# Altium integrated library Xilinx XC4000 XL.IntLib: 450 symbols (part 20 of 49)
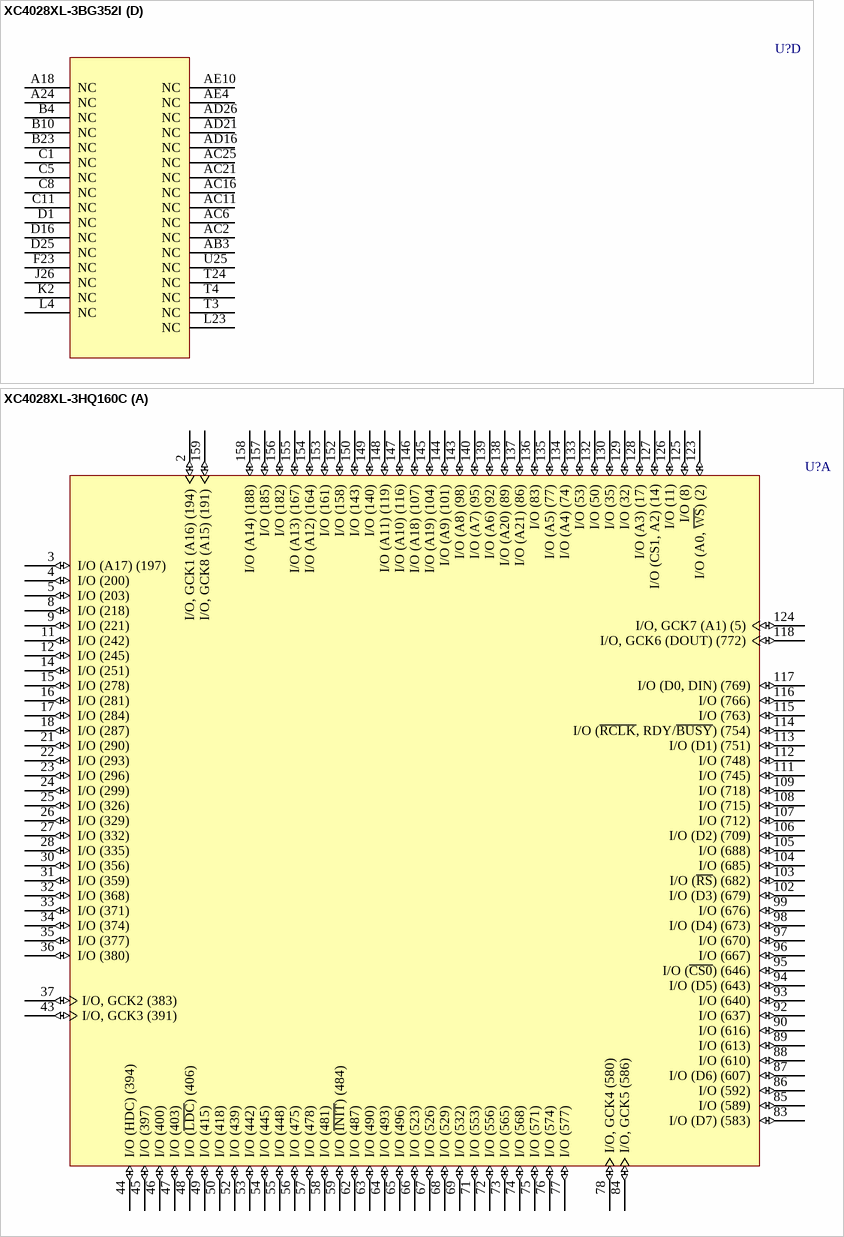
[diagram p418: symbols XC4028XL-3BG352I to XC4028XL-3HQ160C]

## XC4028XL-3BG352I
designator U?
XC4000XL FPGA, 352-Ball BGA, Industrial Grade; PackageDocument: ver1.1, Apr-2001; Published: 28-Feb-2003; DatasheetDocument: (v1.6) May-99; PackageReference: BG352; Publisher: Altium Limited; Code_JEDEC: MO-192-BAR-2
footprint BG352 (352-Ball Metal Ball Grid Array (BG352))
part A pins: A3 I/O (11) (io), A4 I/O (23) (io), A6 I/O (32) (io), A7 I/O (41) (io), A9 I/O (62) (io), A11 I/O (71) (io), A12 I/O (83) (io), A13 I/O (A6) (92) (io), A15 I/O (A19) (104) (io), A16 I/O (A10) (116) (io), A20 I/O (140) (io), A21 I/O (152) (io), A23 I/O (173) (io), AA23 I/O (374) (io), AA24 I/O (365) (io), AA25 I/O (359) (io), AA26 I/O (350) (io), AB24 I/O (377) (io), AB25 I/O (362) (io), AC24 I/O, GCK2 (383) (io), AC26 I/O (371) (io), AD25 I/O (380) (io), AE24 I/O, GCK3 (391) (io), B3 I/O (A0, ~{WS}) (2) (io), B5 I/O (20) (io), B6 I/O (29) (io), B7 I/O (38) (io), B8 I/O (50) (io), B9 I/O (59) (io), B11 I/O (68) (io), B12 I/O (80) (io), B13 I/O (A20) (89) (io), B14 I/O (A7) (95) (io), B15 I/O (A18) (107) (io), B16 I/O (A11) (119) (io), B17 I/O (125) (io), B18 I/O (131) (io), B19 I/O (143) (io), B20 I/O (155) (io), B21 I/O (161) (io), B22 I/O (A12) (164) (io), B24 I/O (182) (io), C6 I/O (A3) (17) (io), C7 I/O (26) (io), C9 I/O (47) (io), C10 I/O (56) (io), C12 I/O (A5) (77) (io), C13 I/O (A21) (86) (io), C14 I/O (A9) (101) (io), C15 I/O (110) (io), C16 I/O (122) (io), C17 I/O (128) (io), C18 I/O (134) (io), C19 I/O (146) (io), C20 I/O (158) (io), C21 I/O (A13) (167) (io), C22 I/O (179) (io), C23 I/O (185) (io), C24 I/O, GCK8 (A15) (191) (io), C25 I/O (A17) (197) (io), D5 I/O (8) (io), D6 I/O (CS1, A2) (14) (io), D8 I/O (35) (io), D9 I/O (44) (io), D10 I/O (53) (io), D11 I/O (65) (io), D12 I/O (A4) (74) (io), D14 I/O (A8) (98) (io), D15 I/O (113) (io), D17 I/O (137) (io), D18 I/O (149) (io), D20 I/O (170) (io), D21 I/O (176) (io), D22 I/O (A14) (188) (io), D23 I/O, GCK1 (A16) (194) (io), D24 I/O (200) (io), D26 I/O (218) (io), E23 I/O (203) (io), E25 I/O (215) (io), F24 I/O (212) (io), F25 I/O (224) (io), F26 I/O (227) (io), G24 I/O (221) (io), G25 I/O (236) (io), G26 I/O (239) (io), H23 I/O (230) (io), H24 I/O (233) (io), J23 I/O (242) (io), J24 I/O (245) (io), J25 I/O (257) (io), K23 I/O (251) (io), K24 I/O (254) (io), K25 I/O (263) (io), L24 I/O (260) (io), L25 I/O (266) (io), L26 I/O (269) (io), M23 I/O (272) (io), M24 I/O (275) (io), M25 I/O (278) (io), M26 I/O (281) (io), N24 I/O (284) (io), N25 I/O (287) (io), N26 I/O (290) (io), P23 I/O (296) (io), P24 I/O (299) (io), P25 I/O (293) (io), R23 I/O (311) (io), R24 I/O (308) (io), R25 I/O (305) (io), R26 I/O (302) (io), T23 I/O (320) (io), T25 I/O (317) (io), T26 I/O (314) (io), U23 I/O (335) (io), U24 I/O (326) (io), V23 I/O (347) (io), V24 I/O (332) (io), V25 I/O (329) (io), V26 I/O (323) (io), W24 I/O (344) (io), W25 I/O (341) (io), Y23 I/O (368) (io), Y24 I/O (356) (io), Y25 I/O (353) (io), Y26 I/O (338) (io)
part B pins: AA1 I/O (613) (io), AA2 I/O (610) (io), AA3 I/O (598) (io), AA4 I/O (595) (io), AB2 I/O (601) (io), AB4 I/O (589) (io), AC1 I/O (604) (io), AC3 I/O, GCK5 (586) (io), AC5 I/O, GCK4 (580) (io), AC7 I/O (562) (io), AC9 I/O (541) (io), AC10 I/O (529) (io), AC12 I/O (505) (io), AC13 I/O (490) (io), AC15 I/O (466) (io), AC17 I/O (445) (io), AC18 I/O (436) (io), AC19 I/O (424) (io), AC22 I/O (397) (io), AD1 I/O (592) (io), AD2 I/O (D7) (583) (io), AD4 I/O (577) (io), AD5 I/O (571) (io), AD6 I/O (559) (io), AD7 I/O (550) (io), AD8 I/O (538) (io), AD9 I/O (526) (io), AD10 I/O (520) (io), AD11 I/O (514) (io), AD12 I/O (502) (io), AD13 I/O (493) (io), AD14 I/O (478) (io), AD15 I/O (469) (io), AD17 I/O (448) (io), AD18 I/O (439) (io), AD19 I/O (427) (io), AD20 I/O (415) (io), AD22 I/O (403) (io), AD23 I/O (HDC) (394) (io), AE3 I/O (574) (io), AE5 I/O (556) (io), AE6 I/O (553) (io), AE7 I/O (547) (io), AE8 I/O (535) (io), AE9 I/O (523) (io), AE11 I/O (511) (io), AE12 I/O (499) (io), AE13 I/O (487) (io), AE14 I/O (481) (io), AE15 I/O (472) (io), AE16 I/O (460) (io), AE17 I/O (457) (io), AE18 I/O (451) (io), AE19 I/O (442) (io), AE20 I/O (430) (io), AE21 I/O (418) (io), AE22 I/O (409) (io), AE23 I/O (~{LDC}) (406) (io), AF3 I/O (568) (io), AF4 I/O (565) (io), AF6 I/O (544) (io), AF7 I/O (532) (io), AF9 I/O (517) (io), AF11 I/O (508) (io), AF12 I/O (496) (io), AF14 I/O (~{INIT}) (484) (io), AF15 I/O (475) (io), AF16 I/O (463) (io), AF18 I/O (454) (io), AF20 I/O (433) (io), AF21 I/O (421) (io), AF23 I/O (412) (io), AF24 I/O (400) (io), C2 I/O (766) (io), C4 I/O, GCK7 (A1) (5) (io), D2 I/O (757) (io), D3 I/O (D0, DIN) (769) (io), E2 I/O (748) (io), E3 I/O (763) (io), E4 I/O, GCK6 (DOUT) (772) (io), F1 I/O (736) (io), F2 I/O (745) (io), F3 I/O (D1) (751) (io), F4 I/O (760) (io), G1 I/O (724) (io), G2 I/O (739) (io), G3 I/O (742) (io), G4 I/O (~{RCLK}, RDY/~{BUSY}) (754) (io), H2 I/O (727) (io), H3 I/O (730) (io), J1 I/O (D2) (709) (io), J2 I/O (715) (io), J3 I/O (718) (io), J4 I/O (733) (io), K3 I/O (712) (io), K4 I/O (721) (io), L1 I/O (700) (io), L2 I/O (703) (io), L3 I/O (706) (io), M1 I/O (688) (io), M2 I/O (691) (io), M3 I/O (694) (io), M4 I/O (697) (io), N2 I/O (D3) (679) (io), N3 I/O (685) (io), N4 I/O (~{RS}) (682) (io), P1 I/O (676) (io), P2 I/O (D4) (673) (io), P3 I/O (670) (io), R1 I/O (667) (io), R2 I/O (664) (io), R3 I/O (661) (io), R4 I/O (658) (io), T1 I/O (655) (io), T2 I/O (652) (io), U2 I/O (649) (io), U3 I/O (640) (io), U4 I/O (637) (io), V1 I/O (~{CS0}) (646) (io), V2 I/O (D5) (643) (io), V3 I/O (631) (io), V4 I/O (628) (io), W2 I/O (634) (io), W3 I/O (619) (io), W4 I/O (616) (io), Y1 I/O (625) (io), Y2 I/O (622) (io), Y3 I/O (D6) (607) (io)
part C pins: A1 GND (power), A2 GND (power), A5 GND (power), A8 GND (power), A10 VCC (power), A14 GND (power), A17 VCC (power), A19 GND (power), A22 GND (power), A25 GND (power), A26 GND (power), AB1 GND (power), AB23 O (M1) (386) (io), AB26 GND (power), AC4 ~{PROGRAM} (in), AC8 VCC (power), AC14 VCC (power), AC20 VCC (power), AC23 I (M2) (390) (in), AD3 DONE (io), AD24 I (M0) (389) (in), AE1 GND (power), AE2 VCC (power), AE25 VCC (power), AE26 GND (power), AF1 GND (power), AF2 GND (power), AF5 GND (power), AF8 GND (power), AF10 VCC (power), AF13 GND (power), AF17 VCC (power), AF19 GND (power), AF22 GND (power), AF25 GND (power), AF26 GND (power), B1 GND (power), B2 VCC (power), B25 VCC (power), B26 GND (power), C3 CCLK (io), C26 I/O, TDI (206) (io), D4 O, TDO (0) (hiz), D7 VCC (power), D13 VCC (power), D19 VCC (power), E1 GND (power), E24 I/O, TCK (209) (io), E26 GND (power), G23 VCC (power), H1 GND (power), H4 VCC (power), H25 I/O, TMS (248) (io), H26 GND (power), K1 VCC (power), K26 VCC (power), N1 GND (power), N23 VCC (power), P4 VCC (power), P26 GND (power), U1 VCC (power), U26 VCC (power), W1 GND (power), W23 VCC (power), W26 GND (power), Y4 VCC (power)
part D pins: A18 NC, A24 NC, AB3 NC, AC2 NC, AC6 NC, AC11 NC, AC16 NC, AC21 NC, AC25 NC, AD16 NC, AD21 NC, AD26 NC, AE4 NC, AE10 NC, B4 NC, B10 NC, B23 NC, C1 NC, C5 NC, C8 NC, C11 NC, D1 NC, D16 NC, D25 NC, F23 NC, J26 NC, K2 NC, L4 NC, L23 NC, T3 NC, T4 NC, T24 NC, U25 NC

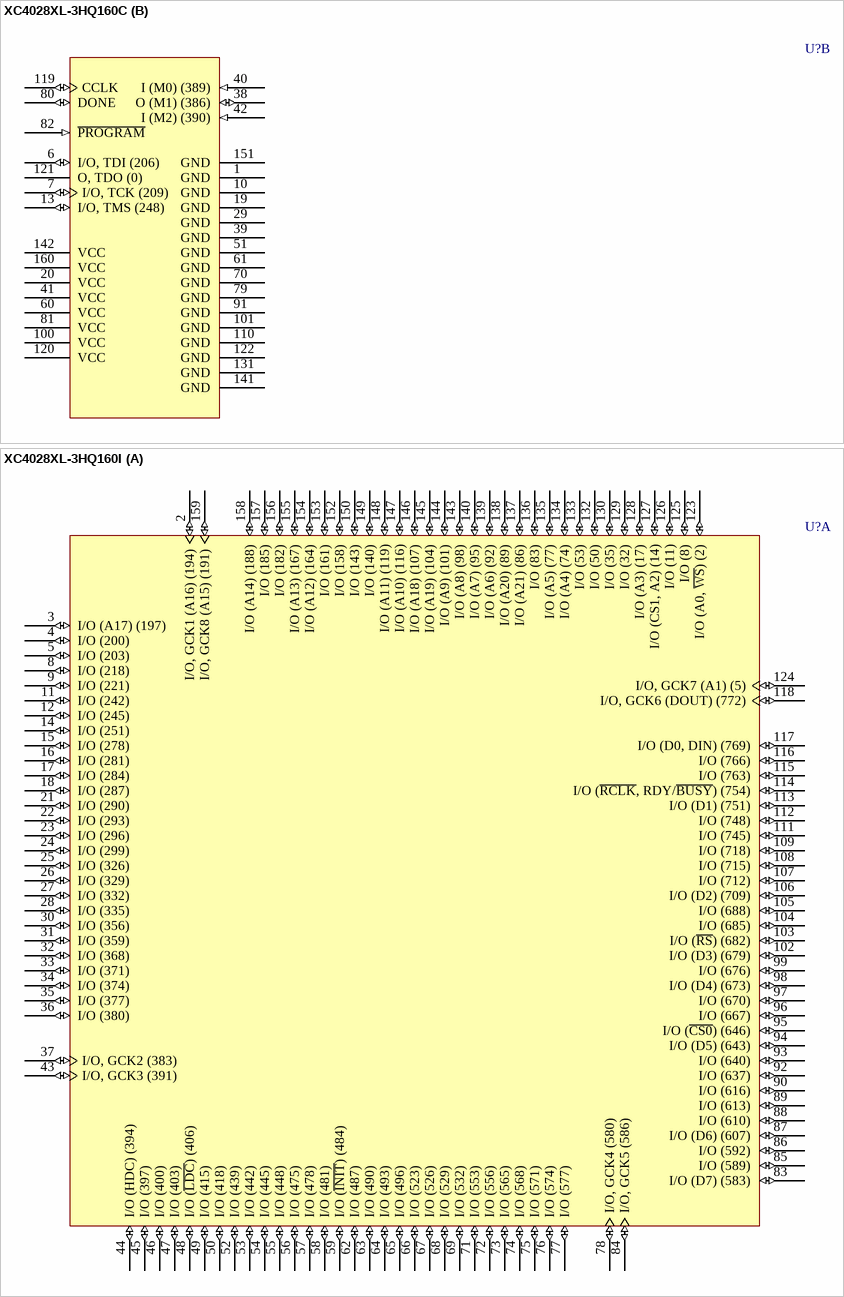
[diagram p215: symbols XC4028XL-3HQ160C to XC4028XL-3HQ160I]

## XC4028XL-3HQ160C
designator U?
XC4000XL FPGA, 160-Pin HQFP, Commercial Grade; PackageDocument: ver1.1, Oct-2002; Published: 28-Feb-2003; DatasheetDocument: (v1.6) May-99; PackageReference: HQ160; Publisher: Altium Limited; Code_JEDEC: MS-022-DD1
footprint HQ160 (160-Pin Heat Sink Quad Flat Pack (HQ160))
part A pins: 2 I/O, GCK1 (A16) (194) (io), 3 I/O (A17) (197) (io), 4 I/O (200) (io), 5 I/O (203) (io), 8 I/O (218) (io), 9 I/O (221) (io), 11 I/O (242) (io), 12 I/O (245) (io), 14 I/O (251) (io), 15 I/O (278) (io), 16 I/O (281) (io), 17 I/O (284) (io), 18 I/O (287) (io), 21 I/O (290) (io), 22 I/O (293) (io), 23 I/O (296) (io), 24 I/O (299) (io), 25 I/O (326) (io), 26 I/O (329) (io), 27 I/O (332) (io), 28 I/O (335) (io), 30 I/O (356) (io), 31 I/O (359) (io), 32 I/O (368) (io), 33 I/O (371) (io), 34 I/O (374) (io), 35 I/O (377) (io), 36 I/O (380) (io), 37 I/O, GCK2 (383) (io), 43 I/O, GCK3 (391) (io), 44 I/O (HDC) (394) (io), 45 I/O (397) (io), 46 I/O (400) (io), 47 I/O (403) (io), 48 I/O (~{LDC}) (406) (io), 49 I/O (415) (io), 50 I/O (418) (io), 52 I/O (439) (io), 53 I/O (442) (io), 54 I/O (445) (io), 55 I/O (448) (io), 56 I/O (475) (io), 57 I/O (478) (io), 58 I/O (481) (io), 59 I/O (~{INIT}) (484) (io), 62 I/O (487) (io), 63 I/O (490) (io), 64 I/O (493) (io), 65 I/O (496) (io), 66 I/O (523) (io), 67 I/O (526) (io), 68 I/O (529) (io), 69 I/O (532) (io), 71 I/O (553) (io), 72 I/O (556) (io), 73 I/O (565) (io), 74 I/O (568) (io), 75 I/O (571) (io), 76 I/O (574) (io), 77 I/O (577) (io), 78 I/O, GCK4 (580) (io), 83 I/O (D7) (583) (io), 84 I/O, GCK5 (586) (io), 85 I/O (589) (io), 86 I/O (592) (io), 87 I/O (D6) (607) (io), 88 I/O (610) (io), 89 I/O (613) (io), 90 I/O (616) (io), 92 I/O (637) (io), 93 I/O (640) (io), 94 I/O (D5) (643) (io), 95 I/O (~{CS0}) (646) (io), 96 I/O (667) (io), 97 I/O (670) (io), 98 I/O (D4) (673) (io), 99 I/O (676) (io), 102 I/O (D3) (679) (io), 103 I/O (~{RS}) (682) (io), 104 I/O (685) (io), 105 I/O (688) (io), 106 I/O (D2) (709) (io), 107 I/O (712) (io), 108 I/O (715) (io), 109 I/O (718) (io), 111 I/O (745) (io), 112 I/O (748) (io), 113 I/O (D1) (751) (io), 114 I/O (~{RCLK}, RDY/~{BUSY}) (754) (io), 115 I/O (763) (io), 116 I/O (766) (io), 117 I/O (D0, DIN) (769) (io), 118 I/O, GCK6 (DOUT) (772) (io), 123 I/O (A0, ~{WS}) (2) (io), 124 I/O, GCK7 (A1) (5) (io), 125 I/O (8) (io), 126 I/O (11) (io), 127 I/O (CS1, A2) (14) (io), 128 I/O (A3) (17) (io), 129 I/O (32) (io), 130 I/O (35) (io), 132 I/O (50) (io), 133 I/O (53) (io), 134 I/O (A4) (74) (io), 135 I/O (A5) (77) (io), 136 I/O (83) (io), 137 I/O (A21) (86) (io), 138 I/O (A20) (89) (io), 139 I/O (A6) (92) (io), 140 I/O (A7) (95) (io), 143 I/O (A8) (98) (io), 144 I/O (A9) (101) (io), 145 I/O (A19) (104) (io), 146 I/O (A18) (107) (io), 147 I/O (A10) (116) (io), 148 I/O (A11) (119) (io), 149 I/O (140) (io), 150 I/O (143) (io), 152 I/O (158) (io), 153 I/O (161) (io), 154 I/O (A12) (164) (io), 155 I/O (A13) (167) (io), 156 I/O (182) (io), 157 I/O (185) (io), 158 I/O (A14) (188) (io), 159 I/O, GCK8 (A15) (191) (io)
part B pins: 1 GND (power), 6 I/O, TDI (206) (io), 7 I/O, TCK (209) (io), 10 GND (power), 13 I/O, TMS (248) (io), 19 GND (power), 20 VCC (power), 29 GND (power), 38 O (M1) (386) (io), 39 GND (power), 40 I (M0) (389) (in), 41 VCC (power), 42 I (M2) (390) (in), 51 GND (power), 60 VCC (power), 61 GND (power), 70 GND (power), 79 GND (power), 80 DONE (io), 81 VCC (power), 82 ~{PROGRAM} (in), 91 GND (power), 100 VCC (power), 101 GND (power), 110 GND (power), 119 CCLK (io), 120 VCC (power), 121 O, TDO (0) (hiz), 122 GND (power), 131 GND (power), 141 GND (power), 142 VCC (power), 151 GND (power), 160 VCC (power)

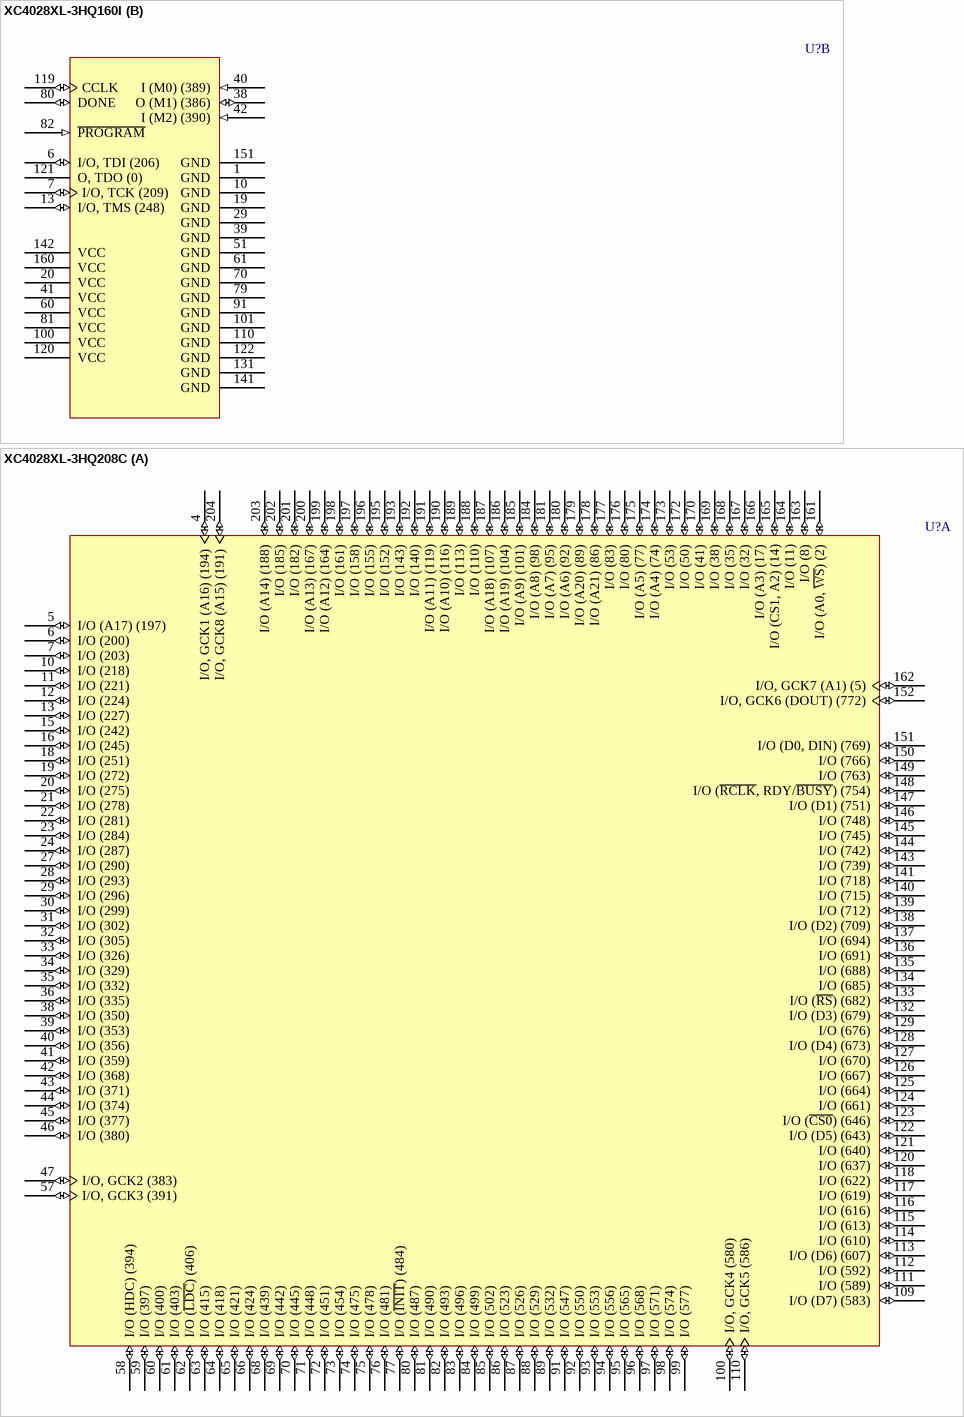
[diagram p216: symbols XC4028XL-3HQ160I to XC4028XL-3HQ208C]

## XC4028XL-3HQ160I
designator U?
XC4000XL FPGA, 160-Pin HQFP, Industrial Grade; PackageDocument: ver1.1, Oct-2002; Published: 28-Feb-2003; DatasheetDocument: (v1.6) May-99; PackageReference: HQ160; Publisher: Altium Limited; Code_JEDEC: MS-022-DD1
footprint HQ160 (160-Pin Heat Sink Quad Flat Pack (HQ160))
part A pins: 2 I/O, GCK1 (A16) (194) (io), 3 I/O (A17) (197) (io), 4 I/O (200) (io), 5 I/O (203) (io), 8 I/O (218) (io), 9 I/O (221) (io), 11 I/O (242) (io), 12 I/O (245) (io), 14 I/O (251) (io), 15 I/O (278) (io), 16 I/O (281) (io), 17 I/O (284) (io), 18 I/O (287) (io), 21 I/O (290) (io), 22 I/O (293) (io), 23 I/O (296) (io), 24 I/O (299) (io), 25 I/O (326) (io), 26 I/O (329) (io), 27 I/O (332) (io), 28 I/O (335) (io), 30 I/O (356) (io), 31 I/O (359) (io), 32 I/O (368) (io), 33 I/O (371) (io), 34 I/O (374) (io), 35 I/O (377) (io), 36 I/O (380) (io), 37 I/O, GCK2 (383) (io), 43 I/O, GCK3 (391) (io), 44 I/O (HDC) (394) (io), 45 I/O (397) (io), 46 I/O (400) (io), 47 I/O (403) (io), 48 I/O (~{LDC}) (406) (io), 49 I/O (415) (io), 50 I/O (418) (io), 52 I/O (439) (io), 53 I/O (442) (io), 54 I/O (445) (io), 55 I/O (448) (io), 56 I/O (475) (io), 57 I/O (478) (io), 58 I/O (481) (io), 59 I/O (~{INIT}) (484) (io), 62 I/O (487) (io), 63 I/O (490) (io), 64 I/O (493) (io), 65 I/O (496) (io), 66 I/O (523) (io), 67 I/O (526) (io), 68 I/O (529) (io), 69 I/O (532) (io), 71 I/O (553) (io), 72 I/O (556) (io), 73 I/O (565) (io), 74 I/O (568) (io), 75 I/O (571) (io), 76 I/O (574) (io), 77 I/O (577) (io), 78 I/O, GCK4 (580) (io), 83 I/O (D7) (583) (io), 84 I/O, GCK5 (586) (io), 85 I/O (589) (io), 86 I/O (592) (io), 87 I/O (D6) (607) (io), 88 I/O (610) (io), 89 I/O (613) (io), 90 I/O (616) (io), 92 I/O (637) (io), 93 I/O (640) (io), 94 I/O (D5) (643) (io), 95 I/O (~{CS0}) (646) (io), 96 I/O (667) (io), 97 I/O (670) (io), 98 I/O (D4) (673) (io), 99 I/O (676) (io), 102 I/O (D3) (679) (io), 103 I/O (~{RS}) (682) (io), 104 I/O (685) (io), 105 I/O (688) (io), 106 I/O (D2) (709) (io), 107 I/O (712) (io), 108 I/O (715) (io), 109 I/O (718) (io), 111 I/O (745) (io), 112 I/O (748) (io), 113 I/O (D1) (751) (io), 114 I/O (~{RCLK}, RDY/~{BUSY}) (754) (io), 115 I/O (763) (io), 116 I/O (766) (io), 117 I/O (D0, DIN) (769) (io), 118 I/O, GCK6 (DOUT) (772) (io), 123 I/O (A0, ~{WS}) (2) (io), 124 I/O, GCK7 (A1) (5) (io), 125 I/O (8) (io), 126 I/O (11) (io), 127 I/O (CS1, A2) (14) (io), 128 I/O (A3) (17) (io), 129 I/O (32) (io), 130 I/O (35) (io), 132 I/O (50) (io), 133 I/O (53) (io), 134 I/O (A4) (74) (io), 135 I/O (A5) (77) (io), 136 I/O (83) (io), 137 I/O (A21) (86) (io), 138 I/O (A20) (89) (io), 139 I/O (A6) (92) (io), 140 I/O (A7) (95) (io), 143 I/O (A8) (98) (io), 144 I/O (A9) (101) (io), 145 I/O (A19) (104) (io), 146 I/O (A18) (107) (io), 147 I/O (A10) (116) (io), 148 I/O (A11) (119) (io), 149 I/O (140) (io), 150 I/O (143) (io), 152 I/O (158) (io), 153 I/O (161) (io), 154 I/O (A12) (164) (io), 155 I/O (A13) (167) (io), 156 I/O (182) (io), 157 I/O (185) (io), 158 I/O (A14) (188) (io), 159 I/O, GCK8 (A15) (191) (io)
part B pins: 1 GND (power), 6 I/O, TDI (206) (io), 7 I/O, TCK (209) (io), 10 GND (power), 13 I/O, TMS (248) (io), 19 GND (power), 20 VCC (power), 29 GND (power), 38 O (M1) (386) (io), 39 GND (power), 40 I (M0) (389) (in), 41 VCC (power), 42 I (M2) (390) (in), 51 GND (power), 60 VCC (power), 61 GND (power), 70 GND (power), 79 GND (power), 80 DONE (io), 81 VCC (power), 82 ~{PROGRAM} (in), 91 GND (power), 100 VCC (power), 101 GND (power), 110 GND (power), 119 CCLK (io), 120 VCC (power), 121 O, TDO (0) (hiz), 122 GND (power), 131 GND (power), 141 GND (power), 142 VCC (power), 151 GND (power), 160 VCC (power)

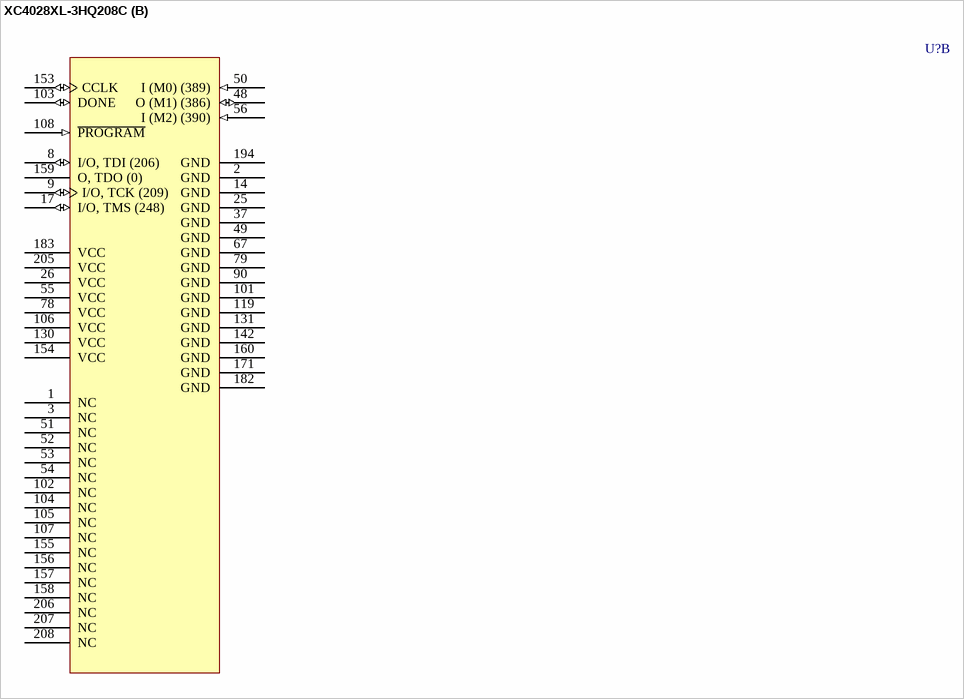
[diagram p217: symbol XC4028XL-3HQ208C]

## XC4028XL-3HQ208C
designator U?
XC4000XL FPGA, 208-Pin HQFP, Commercial Grade; PackageDocument: ver1.1, Oct-2002; Published: 28-Feb-2003; LatestRevisionDate: 17-Sep-2003; LatestRevisionNote: PCB Footprint dimensions updated; DatasheetDocument: (v1.6) May-99; PackageReference: HQ208; Publisher: Altium Limited; Code_JEDEC: MS-029-FA-1
footprint HQ208 (208-Pin Heat Sink Quad Flat Pack (HQ208))
part A pins: 4 I/O, GCK1 (A16) (194) (io), 5 I/O (A17) (197) (io), 6 I/O (200) (io), 7 I/O (203) (io), 10 I/O (218) (io), 11 I/O (221) (io), 12 I/O (224) (io), 13 I/O (227) (io), 15 I/O (242) (io), 16 I/O (245) (io), 18 I/O (251) (io), 19 I/O (272) (io), 20 I/O (275) (io), 21 I/O (278) (io), 22 I/O (281) (io), 23 I/O (284) (io), 24 I/O (287) (io), 27 I/O (290) (io), 28 I/O (293) (io), 29 I/O (296) (io), 30 I/O (299) (io), 31 I/O (302) (io), 32 I/O (305) (io), 33 I/O (326) (io), 34 I/O (329) (io), 35 I/O (332) (io), 36 I/O (335) (io), 38 I/O (350) (io), 39 I/O (353) (io), 40 I/O (356) (io), 41 I/O (359) (io), 42 I/O (368) (io), 43 I/O (371) (io), 44 I/O (374) (io), 45 I/O (377) (io), 46 I/O (380) (io), 47 I/O, GCK2 (383) (io), 57 I/O, GCK3 (391) (io), 58 I/O (HDC) (394) (io), 59 I/O (397) (io), 60 I/O (400) (io), 61 I/O (403) (io), 62 I/O (~{LDC}) (406) (io), 63 I/O (415) (io), 64 I/O (418) (io), 65 I/O (421) (io), 66 I/O (424) (io), 68 I/O (439) (io), 69 I/O (442) (io), 70 I/O (445) (io), 71 I/O (448) (io), 72 I/O (451) (io), 73 I/O (454) (io), 74 I/O (475) (io), 75 I/O (478) (io), 76 I/O (481) (io), 77 I/O (~{INIT}) (484) (io), 80 I/O (487) (io), 81 I/O (490) (io), 82 I/O (493) (io), 83 I/O (496) (io), 84 I/O (499) (io), 85 I/O (502) (io), 86 I/O (523) (io), 87 I/O (526) (io), 88 I/O (529) (io), 89 I/O (532) (io), 91 I/O (547) (io), 92 I/O (550) (io), 93 I/O (553) (io), 94 I/O (556) (io), 95 I/O (565) (io), 96 I/O (568) (io), 97 I/O (571) (io), 98 I/O (574) (io), 99 I/O (577) (io), 100 I/O, GCK4 (580) (io), 109 I/O (D7) (583) (io), 110 I/O, GCK5 (586) (io), 111 I/O (589) (io), 112 I/O (592) (io), 113 I/O (D6) (607) (io), 114 I/O (610) (io), 115 I/O (613) (io), 116 I/O (616) (io), 117 I/O (619) (io), 118 I/O (622) (io), 120 I/O (637) (io), 121 I/O (640) (io), 122 I/O (D5) (643) (io), 123 I/O (~{CS0}) (646) (io), 124 I/O (661) (io), 125 I/O (664) (io), 126 I/O (667) (io), 127 I/O (670) (io), 128 I/O (D4) (673) (io), 129 I/O (676) (io), 132 I/O (D3) (679) (io), 133 I/O (~{RS}) (682) (io), 134 I/O (685) (io), 135 I/O (688) (io), 136 I/O (691) (io), 137 I/O (694) (io), 138 I/O (D2) (709) (io), 139 I/O (712) (io), 140 I/O (715) (io), 141 I/O (718) (io), 143 I/O (739) (io), 144 I/O (742) (io), 145 I/O (745) (io), 146 I/O (748) (io), 147 I/O (D1) (751) (io), 148 I/O (~{RCLK}, RDY/~{BUSY}) (754) (io), 149 I/O (763) (io), 150 I/O (766) (io), 151 I/O (D0, DIN) (769) (io), 152 I/O, GCK6 (DOUT) (772) (io), 161 I/O (A0, ~{WS}) (2) (io), 162 I/O, GCK7 (A1) (5) (io), 163 I/O (8) (io), 164 I/O (11) (io), 165 I/O (CS1, A2) (14) (io), 166 I/O (A3) (17) (io), 167 I/O (32) (io), 168 I/O (35) (io), 169 I/O (38) (io), 170 I/O (41) (io), 172 I/O (50) (io), 173 I/O (53) (io), 174 I/O (A4) (74) (io), 175 I/O (A5) (77) (io), 176 I/O (80) (io), 177 I/O (83) (io), 178 I/O (A21) (86) (io), 179 I/O (A20) (89) (io), 180 I/O (A6) (92) (io), 181 I/O (A7) (95) (io), 184 I/O (A8) (98) (io), 185 I/O (A9) (101) (io), 186 I/O (A19) (104) (io), 187 I/O (A18) (107) (io), 188 I/O (110) (io), 189 I/O (113) (io), 190 I/O (A10) (116) (io), 191 I/O (A11) (119) (io), 192 I/O (140) (io), 193 I/O (143) (io), 195 I/O (152) (io), 196 I/O (155) (io), 197 I/O (158) (io), 198 I/O (161) (io), 199 I/O (A12) (164) (io), 200 I/O (A13) (167) (io), 201 I/O (182) (io), 202 I/O (185) (io), 203 I/O (A14) (188) (io), 204 I/O, GCK8 (A15) (191) (io)
part B pins: 1 NC, 2 GND (power), 3 NC, 8 I/O, TDI (206) (io), 9 I/O, TCK (209) (io), 14 GND (power), 17 I/O, TMS (248) (io), 25 GND (power), 26 VCC (power), 37 GND (power), 48 O (M1) (386) (io), 49 GND (power), 50 I (M0) (389) (in), 51 NC, 52 NC, 53 NC, 54 NC, 55 VCC (power), 56 I (M2) (390) (in), 67 GND (power), 78 VCC (power), 79 GND (power), 90 GND (power), 101 GND (power), 102 NC, 103 DONE (io), 104 NC, 105 NC, 106 VCC (power), 107 NC, 108 ~{PROGRAM} (in), 119 GND (power), 130 VCC (power), 131 GND (power), 142 GND (power), 153 CCLK (io), 154 VCC (power), 155 NC, 156 NC, 157 NC, 158 NC, 159 O, TDO (0) (hiz), 160 GND (power), 171 GND (power), 182 GND (power), 183 VCC (power), 194 GND (power), 205 VCC (power), 206 NC, 207 NC, 208 NC

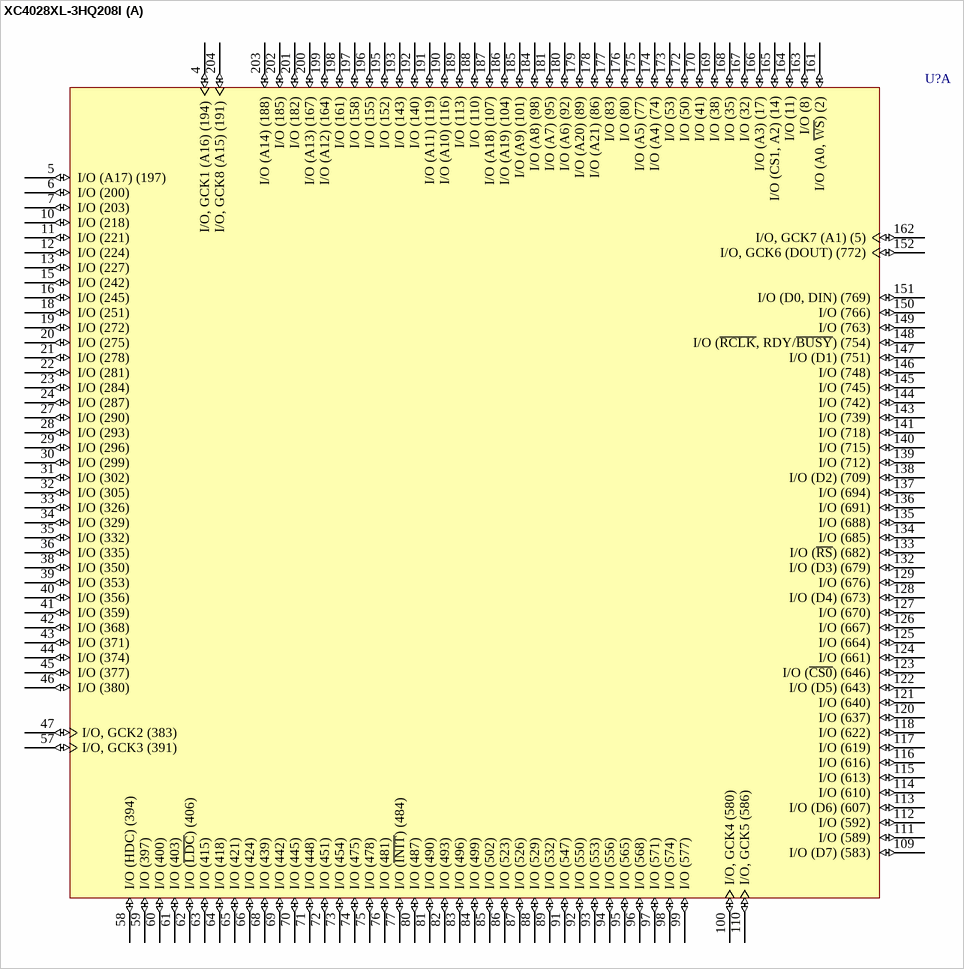
[diagram p218: symbol XC4028XL-3HQ208I]

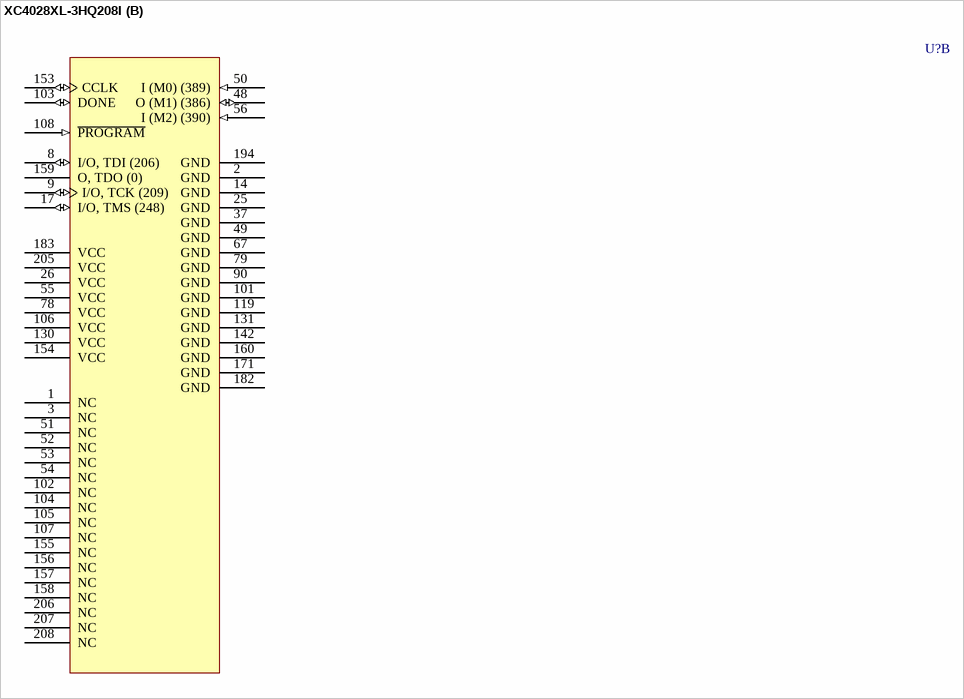
[diagram p219: symbol XC4028XL-3HQ208I]

## XC4028XL-3HQ208I
designator U?
XC4000XL FPGA, 208-Pin HQFP, Industrial Grade; PackageDocument: ver1.1, Oct-2002; Published: 28-Feb-2003; LatestRevisionDate: 17-Sep-2003; LatestRevisionNote: PCB Footprint dimensions updated; DatasheetDocument: (v1.6) May-99; PackageReference: HQ208; Publisher: Altium Limited; Code_JEDEC: MS-029-FA-1
footprint HQ208 (208-Pin Heat Sink Quad Flat Pack (HQ208))
part A pins: 4 I/O, GCK1 (A16) (194) (io), 5 I/O (A17) (197) (io), 6 I/O (200) (io), 7 I/O (203) (io), 10 I/O (218) (io), 11 I/O (221) (io), 12 I/O (224) (io), 13 I/O (227) (io), 15 I/O (242) (io), 16 I/O (245) (io), 18 I/O (251) (io), 19 I/O (272) (io), 20 I/O (275) (io), 21 I/O (278) (io), 22 I/O (281) (io), 23 I/O (284) (io), 24 I/O (287) (io), 27 I/O (290) (io), 28 I/O (293) (io), 29 I/O (296) (io), 30 I/O (299) (io), 31 I/O (302) (io), 32 I/O (305) (io), 33 I/O (326) (io), 34 I/O (329) (io), 35 I/O (332) (io), 36 I/O (335) (io), 38 I/O (350) (io), 39 I/O (353) (io), 40 I/O (356) (io), 41 I/O (359) (io), 42 I/O (368) (io), 43 I/O (371) (io), 44 I/O (374) (io), 45 I/O (377) (io), 46 I/O (380) (io), 47 I/O, GCK2 (383) (io), 57 I/O, GCK3 (391) (io), 58 I/O (HDC) (394) (io), 59 I/O (397) (io), 60 I/O (400) (io), 61 I/O (403) (io), 62 I/O (~{LDC}) (406) (io), 63 I/O (415) (io), 64 I/O (418) (io), 65 I/O (421) (io), 66 I/O (424) (io), 68 I/O (439) (io), 69 I/O (442) (io), 70 I/O (445) (io), 71 I/O (448) (io), 72 I/O (451) (io), 73 I/O (454) (io), 74 I/O (475) (io), 75 I/O (478) (io), 76 I/O (481) (io), 77 I/O (~{INIT}) (484) (io), 80 I/O (487) (io), 81 I/O (490) (io), 82 I/O (493) (io), 83 I/O (496) (io), 84 I/O (499) (io), 85 I/O (502) (io), 86 I/O (523) (io), 87 I/O (526) (io), 88 I/O (529) (io), 89 I/O (532) (io), 91 I/O (547) (io), 92 I/O (550) (io), 93 I/O (553) (io), 94 I/O (556) (io), 95 I/O (565) (io), 96 I/O (568) (io), 97 I/O (571) (io), 98 I/O (574) (io), 99 I/O (577) (io), 100 I/O, GCK4 (580) (io), 109 I/O (D7) (583) (io), 110 I/O, GCK5 (586) (io), 111 I/O (589) (io), 112 I/O (592) (io), 113 I/O (D6) (607) (io), 114 I/O (610) (io), 115 I/O (613) (io), 116 I/O (616) (io), 117 I/O (619) (io), 118 I/O (622) (io), 120 I/O (637) (io), 121 I/O (640) (io), 122 I/O (D5) (643) (io), 123 I/O (~{CS0}) (646) (io), 124 I/O (661) (io), 125 I/O (664) (io), 126 I/O (667) (io), 127 I/O (670) (io), 128 I/O (D4) (673) (io), 129 I/O (676) (io), 132 I/O (D3) (679) (io), 133 I/O (~{RS}) (682) (io), 134 I/O (685) (io), 135 I/O (688) (io), 136 I/O (691) (io), 137 I/O (694) (io), 138 I/O (D2) (709) (io), 139 I/O (712) (io), 140 I/O (715) (io), 141 I/O (718) (io), 143 I/O (739) (io), 144 I/O (742) (io), 145 I/O (745) (io), 146 I/O (748) (io), 147 I/O (D1) (751) (io), 148 I/O (~{RCLK}, RDY/~{BUSY}) (754) (io), 149 I/O (763) (io), 150 I/O (766) (io), 151 I/O (D0, DIN) (769) (io), 152 I/O, GCK6 (DOUT) (772) (io), 161 I/O (A0, ~{WS}) (2) (io), 162 I/O, GCK7 (A1) (5) (io), 163 I/O (8) (io), 164 I/O (11) (io), 165 I/O (CS1, A2) (14) (io), 166 I/O (A3) (17) (io), 167 I/O (32) (io), 168 I/O (35) (io), 169 I/O (38) (io), 170 I/O (41) (io), 172 I/O (50) (io), 173 I/O (53) (io), 174 I/O (A4) (74) (io), 175 I/O (A5) (77) (io), 176 I/O (80) (io), 177 I/O (83) (io), 178 I/O (A21) (86) (io), 179 I/O (A20) (89) (io), 180 I/O (A6) (92) (io), 181 I/O (A7) (95) (io), 184 I/O (A8) (98) (io), 185 I/O (A9) (101) (io), 186 I/O (A19) (104) (io), 187 I/O (A18) (107) (io), 188 I/O (110) (io), 189 I/O (113) (io), 190 I/O (A10) (116) (io), 191 I/O (A11) (119) (io), 192 I/O (140) (io), 193 I/O (143) (io), 195 I/O (152) (io), 196 I/O (155) (io), 197 I/O (158) (io), 198 I/O (161) (io), 199 I/O (A12) (164) (io), 200 I/O (A13) (167) (io), 201 I/O (182) (io), 202 I/O (185) (io), 203 I/O (A14) (188) (io), 204 I/O, GCK8 (A15) (191) (io)
part B pins: 1 NC, 2 GND (power), 3 NC, 8 I/O, TDI (206) (io), 9 I/O, TCK (209) (io), 14 GND (power), 17 I/O, TMS (248) (io), 25 GND (power), 26 VCC (power), 37 GND (power), 48 O (M1) (386) (io), 49 GND (power), 50 I (M0) (389) (in), 51 NC, 52 NC, 53 NC, 54 NC, 55 VCC (power), 56 I (M2) (390) (in), 67 GND (power), 78 VCC (power), 79 GND (power), 90 GND (power), 101 GND (power), 102 NC, 103 DONE (io), 104 NC, 105 NC, 106 VCC (power), 107 NC, 108 ~{PROGRAM} (in), 119 GND (power), 130 VCC (power), 131 GND (power), 142 GND (power), 153 CCLK (io), 154 VCC (power), 155 NC, 156 NC, 157 NC, 158 NC, 159 O, TDO (0) (hiz), 160 GND (power), 171 GND (power), 182 GND (power), 183 VCC (power), 194 GND (power), 205 VCC (power), 206 NC, 207 NC, 208 NC

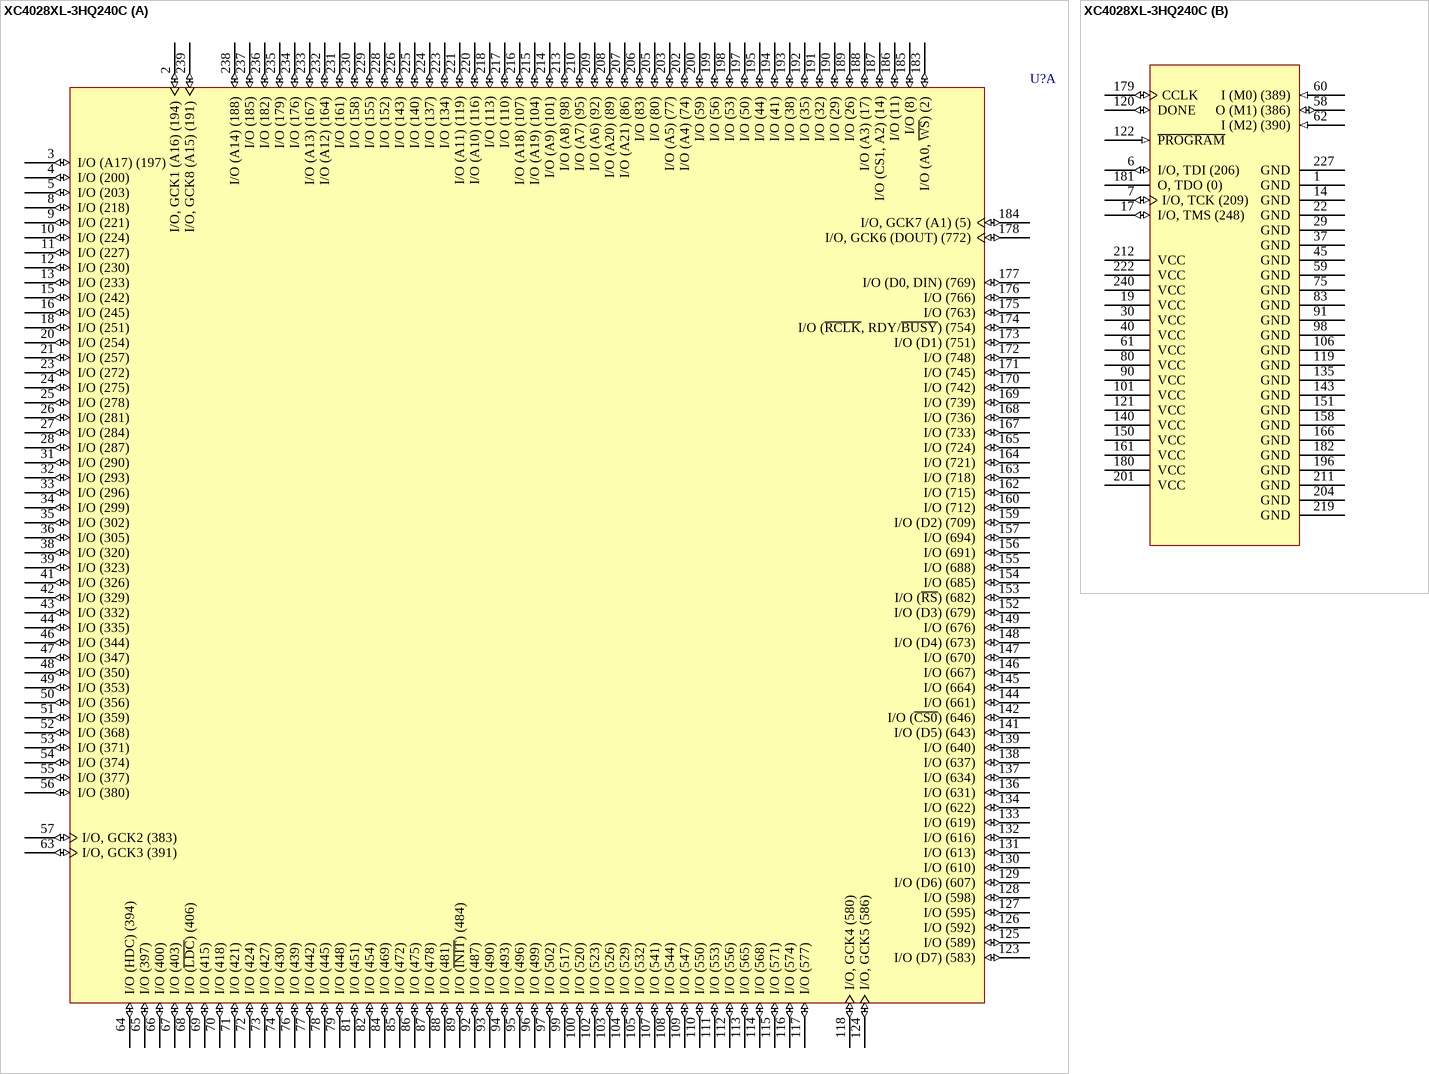
[diagram p220: symbol XC4028XL-3HQ240C]

## XC4028XL-3HQ240C
designator U?
XC4000XL FPGA, 240-Pin HQFP, Commercial Grade; PackageDocument: ver1.1, Oct-2002; Published: 28-Feb-2003; DatasheetDocument: (v1.6) May-99; PackageReference: HQ240; Publisher: Altium Limited; Code_JEDEC: MO-143-GA
footprint HQ240 (240-Pin Heat Sink Quad Flat Pack (HQ240))
part A pins: 2 I/O, GCK1 (A16) (194) (io), 3 I/O (A17) (197) (io), 4 I/O (200) (io), 5 I/O (203) (io), 8 I/O (218) (io), 9 I/O (221) (io), 10 I/O (224) (io), 11 I/O (227) (io), 12 I/O (230) (io), 13 I/O (233) (io), 15 I/O (242) (io), 16 I/O (245) (io), 18 I/O (251) (io), 20 I/O (254) (io), 21 I/O (257) (io), 23 I/O (272) (io), 24 I/O (275) (io), 25 I/O (278) (io), 26 I/O (281) (io), 27 I/O (284) (io), 28 I/O (287) (io), 31 I/O (290) (io), 32 I/O (293) (io), 33 I/O (296) (io), 34 I/O (299) (io), 35 I/O (302) (io), 36 I/O (305) (io), 38 I/O (320) (io), 39 I/O (323) (io), 41 I/O (326) (io), 42 I/O (329) (io), 43 I/O (332) (io), 44 I/O (335) (io), 46 I/O (344) (io), 47 I/O (347) (io), 48 I/O (350) (io), 49 I/O (353) (io), 50 I/O (356) (io), 51 I/O (359) (io), 52 I/O (368) (io), 53 I/O (371) (io), 54 I/O (374) (io), 55 I/O (377) (io), 56 I/O (380) (io), 57 I/O, GCK2 (383) (io), 63 I/O, GCK3 (391) (io), 64 I/O (HDC) (394) (io), 65 I/O (397) (io), 66 I/O (400) (io), 67 I/O (403) (io), 68 I/O (~{LDC}) (406) (io), 69 I/O (415) (io), 70 I/O (418) (io), 71 I/O (421) (io), 72 I/O (424) (io), 73 I/O (427) (io), 74 I/O (430) (io), 76 I/O (439) (io), 77 I/O (442) (io), 78 I/O (445) (io), 79 I/O (448) (io), 81 I/O (451) (io), 82 I/O (454) (io), 84 I/O (469) (io), 85 I/O (472) (io), 86 I/O (475) (io), 87 I/O (478) (io), 88 I/O (481) (io), 89 I/O (~{INIT}) (484) (io), 92 I/O (487) (io), 93 I/O (490) (io), 94 I/O (493) (io), 95 I/O (496) (io), 96 I/O (499) (io), 97 I/O (502) (io), 99 I/O (517) (io), 100 I/O (520) (io), 102 I/O (523) (io), 103 I/O (526) (io), 104 I/O (529) (io), 105 I/O (532) (io), 107 I/O (541) (io), 108 I/O (544) (io), 109 I/O (547) (io), 110 I/O (550) (io), 111 I/O (553) (io), 112 I/O (556) (io), 113 I/O (565) (io), 114 I/O (568) (io), 115 I/O (571) (io), 116 I/O (574) (io), 117 I/O (577) (io), 118 I/O, GCK4 (580) (io), 123 I/O (D7) (583) (io), 124 I/O, GCK5 (586) (io), 125 I/O (589) (io), 126 I/O (592) (io), 127 I/O (595) (io), 128 I/O (598) (io), 129 I/O (D6) (607) (io), 130 I/O (610) (io), 131 I/O (613) (io), 132 I/O (616) (io), 133 I/O (619) (io), 134 I/O (622) (io), 136 I/O (631) (io), 137 I/O (634) (io), 138 I/O (637) (io), 139 I/O (640) (io), 141 I/O (D5) (643) (io), 142 I/O (~{CS0}) (646) (io), 144 I/O (661) (io), 145 I/O (664) (io), 146 I/O (667) (io), 147 I/O (670) (io), 148 I/O (D4) (673) (io), 149 I/O (676) (io), 152 I/O (D3) (679) (io), 153 I/O (~{RS}) (682) (io), 154 I/O (685) (io), 155 I/O (688) (io), 156 I/O (691) (io), 157 I/O (694) (io), 159 I/O (D2) (709) (io), 160 I/O (712) (io), 162 I/O (715) (io), 163 I/O (718) (io), 164 I/O (721) (io), 165 I/O (724) (io), 167 I/O (733) (io), 168 I/O (736) (io), 169 I/O (739) (io), 170 I/O (742) (io), 171 I/O (745) (io), 172 I/O (748) (io), 173 I/O (D1) (751) (io), 174 I/O (~{RCLK}, RDY/~{BUSY}) (754) (io), 175 I/O (763) (io), 176 I/O (766) (io), 177 I/O (D0, DIN) (769) (io), 178 I/O, GCK6 (DOUT) (772) (io), 183 I/O (A0, ~{WS}) (2) (io), 184 I/O, GCK7 (A1) (5) (io), 185 I/O (8) (io), 186 I/O (11) (io), 187 I/O (CS1, A2) (14) (io), 188 I/O (A3) (17) (io), 189 I/O (26) (io), 190 I/O (29) (io), 191 I/O (32) (io), 192 I/O (35) (io), 193 I/O (38) (io), 194 I/O (41) (io), 195 I/O (44) (io), 197 I/O (50) (io), 198 I/O (53) (io), 199 I/O (56) (io), 200 I/O (59) (io), 202 I/O (A4) (74) (io), 203 I/O (A5) (77) (io), 205 I/O (80) (io), 206 I/O (83) (io), 207 I/O (A21) (86) (io), 208 I/O (A20) (89) (io), 209 I/O (A6) (92) (io), 210 I/O (A7) (95) (io), 213 I/O (A8) (98) (io), 214 I/O (A9) (101) (io), 215 I/O (A19) (104) (io), 216 I/O (A18) (107) (io), 217 I/O (110) (io), 218 I/O (113) (io), 220 I/O (A10) (116) (io), 221 I/O (A11) (119) (io), 223 I/O (134) (io), 224 I/O (137) (io), 225 I/O (140) (io), 226 I/O (143) (io), 228 I/O (152) (io), 229 I/O (155) (io), 230 I/O (158) (io), 231 I/O (161) (io), 232 I/O (A12) (164) (io), 233 I/O (A13) (167) (io), 234 I/O (176) (io), 235 I/O (179) (io), 236 I/O (182) (io), 237 I/O (185) (io), 238 I/O (A14) (188) (io), 239 I/O, GCK8 (A15) (191) (io)
part B pins: 1 GND (power), 6 I/O, TDI (206) (io), 7 I/O, TCK (209) (io), 14 GND (power), 17 I/O, TMS (248) (io), 19 VCC (power), 22 GND (power), 29 GND (power), 30 VCC (power), 37 GND (power), 40 VCC (power), 45 GND (power), 58 O (M1) (386) (io), 59 GND (power), 60 I (M0) (389) (in), 61 VCC (power), 62 I (M2) (390) (in), 75 GND (power), 80 VCC (power), 83 GND (power), 90 VCC (power), 91 GND (power), 98 GND (power), 101 VCC (power), 106 GND (power), 119 GND (power), 120 DONE (io), 121 VCC (power), 122 ~{PROGRAM} (in), 135 GND (power), 140 VCC (power), 143 GND (power), 150 VCC (power), 151 GND (power), 158 GND (power), 161 VCC (power), 166 GND (power), 179 CCLK (io), 180 VCC (power), 181 O, TDO (0) (hiz), 182 GND (power), 196 GND (power), 201 VCC (power), 204 GND (power), 211 GND (power), 212 VCC (power), 219 GND (power), 222 VCC (power), 227 GND (power), 240 VCC (power)

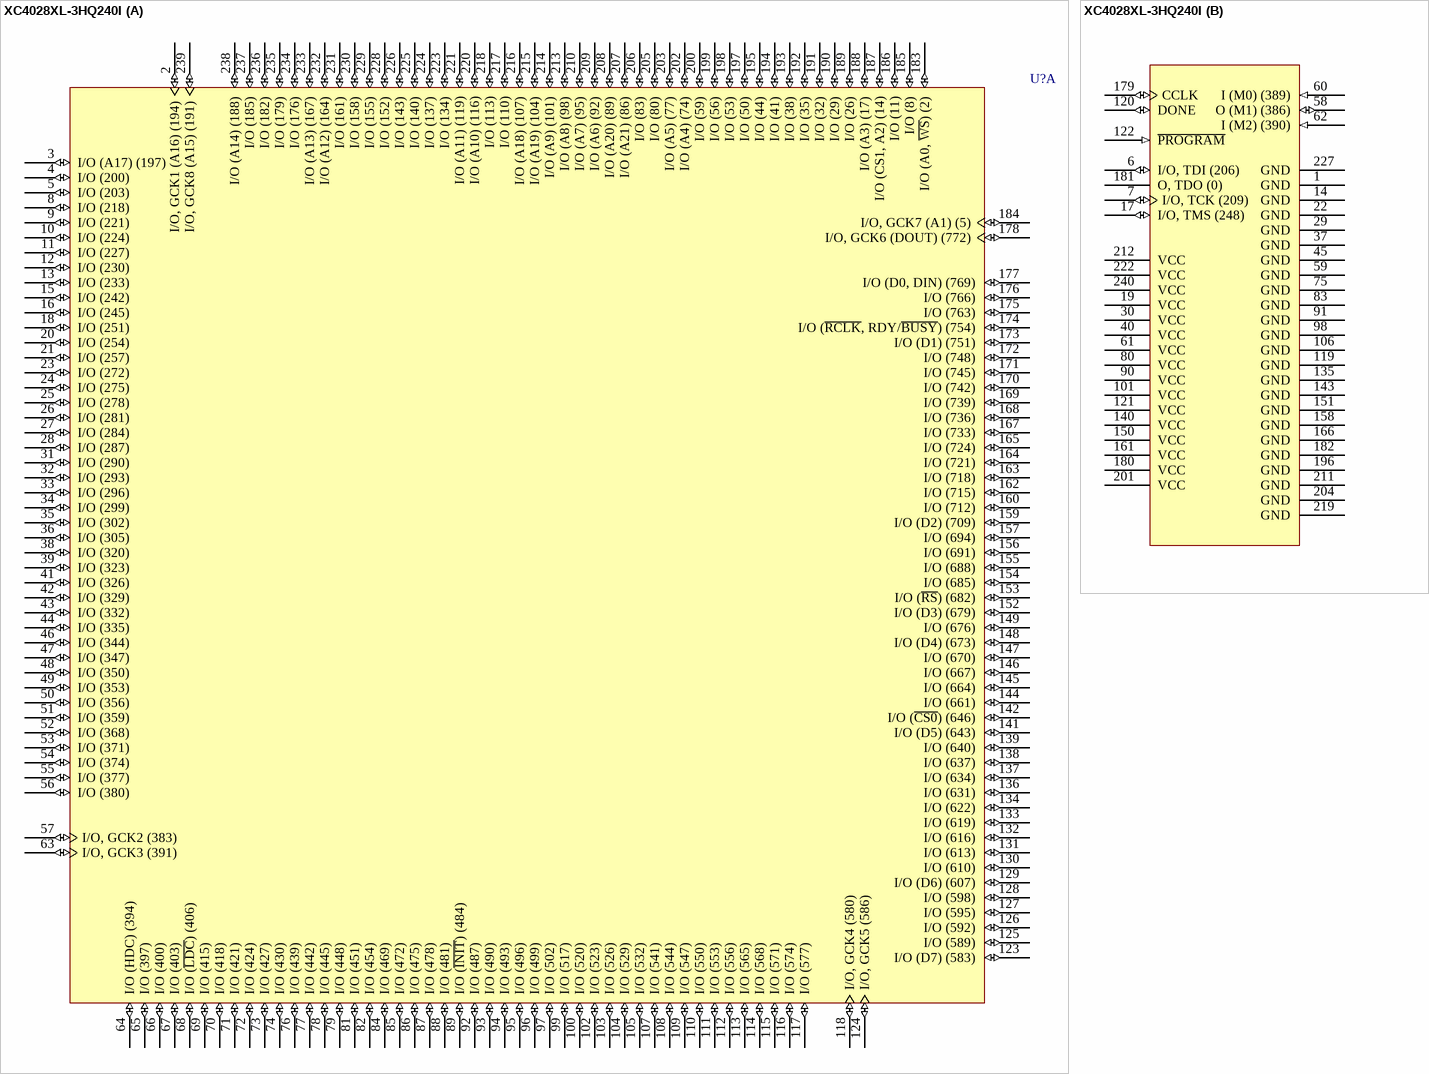
[diagram p221: symbol XC4028XL-3HQ240I]

## XC4028XL-3HQ240I
designator U?
XC4000XL FPGA, 240-Pin HQFP, Industrial Grade; PackageDocument: ver1.1, Oct-2002; Published: 28-Feb-2003; DatasheetDocument: (v1.6) May-99; PackageReference: HQ240; Publisher: Altium Limited; Code_JEDEC: MO-143-GA
footprint HQ240 (240-Pin Heat Sink Quad Flat Pack (HQ240))
part A pins: 2 I/O, GCK1 (A16) (194) (io), 3 I/O (A17) (197) (io), 4 I/O (200) (io), 5 I/O (203) (io), 8 I/O (218) (io), 9 I/O (221) (io), 10 I/O (224) (io), 11 I/O (227) (io), 12 I/O (230) (io), 13 I/O (233) (io), 15 I/O (242) (io), 16 I/O (245) (io), 18 I/O (251) (io), 20 I/O (254) (io), 21 I/O (257) (io), 23 I/O (272) (io), 24 I/O (275) (io), 25 I/O (278) (io), 26 I/O (281) (io), 27 I/O (284) (io), 28 I/O (287) (io), 31 I/O (290) (io), 32 I/O (293) (io), 33 I/O (296) (io), 34 I/O (299) (io), 35 I/O (302) (io), 36 I/O (305) (io), 38 I/O (320) (io), 39 I/O (323) (io), 41 I/O (326) (io), 42 I/O (329) (io), 43 I/O (332) (io), 44 I/O (335) (io), 46 I/O (344) (io), 47 I/O (347) (io), 48 I/O (350) (io), 49 I/O (353) (io), 50 I/O (356) (io), 51 I/O (359) (io), 52 I/O (368) (io), 53 I/O (371) (io), 54 I/O (374) (io), 55 I/O (377) (io), 56 I/O (380) (io), 57 I/O, GCK2 (383) (io), 63 I/O, GCK3 (391) (io), 64 I/O (HDC) (394) (io), 65 I/O (397) (io), 66 I/O (400) (io), 67 I/O (403) (io), 68 I/O (~{LDC}) (406) (io), 69 I/O (415) (io), 70 I/O (418) (io), 71 I/O (421) (io), 72 I/O (424) (io), 73 I/O (427) (io), 74 I/O (430) (io), 76 I/O (439) (io), 77 I/O (442) (io), 78 I/O (445) (io), 79 I/O (448) (io), 81 I/O (451) (io), 82 I/O (454) (io), 84 I/O (469) (io), 85 I/O (472) (io), 86 I/O (475) (io), 87 I/O (478) (io), 88 I/O (481) (io), 89 I/O (~{INIT}) (484) (io), 92 I/O (487) (io), 93 I/O (490) (io), 94 I/O (493) (io), 95 I/O (496) (io), 96 I/O (499) (io), 97 I/O (502) (io), 99 I/O (517) (io), 100 I/O (520) (io), 102 I/O (523) (io), 103 I/O (526) (io), 104 I/O (529) (io), 105 I/O (532) (io), 107 I/O (541) (io), 108 I/O (544) (io), 109 I/O (547) (io), 110 I/O (550) (io), 111 I/O (553) (io), 112 I/O (556) (io), 113 I/O (565) (io), 114 I/O (568) (io), 115 I/O (571) (io), 116 I/O (574) (io), 117 I/O (577) (io), 118 I/O, GCK4 (580) (io), 123 I/O (D7) (583) (io), 124 I/O, GCK5 (586) (io), 125 I/O (589) (io), 126 I/O (592) (io), 127 I/O (595) (io), 128 I/O (598) (io), 129 I/O (D6) (607) (io), 130 I/O (610) (io), 131 I/O (613) (io), 132 I/O (616) (io), 133 I/O (619) (io), 134 I/O (622) (io), 136 I/O (631) (io), 137 I/O (634) (io), 138 I/O (637) (io), 139 I/O (640) (io), 141 I/O (D5) (643) (io), 142 I/O (~{CS0}) (646) (io), 144 I/O (661) (io), 145 I/O (664) (io), 146 I/O (667) (io), 147 I/O (670) (io), 148 I/O (D4) (673) (io), 149 I/O (676) (io), 152 I/O (D3) (679) (io), 153 I/O (~{RS}) (682) (io), 154 I/O (685) (io), 155 I/O (688) (io), 156 I/O (691) (io), 157 I/O (694) (io), 159 I/O (D2) (709) (io), 160 I/O (712) (io), 162 I/O (715) (io), 163 I/O (718) (io), 164 I/O (721) (io), 165 I/O (724) (io), 167 I/O (733) (io), 168 I/O (736) (io), 169 I/O (739) (io), 170 I/O (742) (io), 171 I/O (745) (io), 172 I/O (748) (io), 173 I/O (D1) (751) (io), 174 I/O (~{RCLK}, RDY/~{BUSY}) (754) (io), 175 I/O (763) (io), 176 I/O (766) (io), 177 I/O (D0, DIN) (769) (io), 178 I/O, GCK6 (DOUT) (772) (io), 183 I/O (A0, ~{WS}) (2) (io), 184 I/O, GCK7 (A1) (5) (io), 185 I/O (8) (io), 186 I/O (11) (io), 187 I/O (CS1, A2) (14) (io), 188 I/O (A3) (17) (io), 189 I/O (26) (io), 190 I/O (29) (io), 191 I/O (32) (io), 192 I/O (35) (io), 193 I/O (38) (io), 194 I/O (41) (io), 195 I/O (44) (io), 197 I/O (50) (io), 198 I/O (53) (io), 199 I/O (56) (io), 200 I/O (59) (io), 202 I/O (A4) (74) (io), 203 I/O (A5) (77) (io), 205 I/O (80) (io), 206 I/O (83) (io), 207 I/O (A21) (86) (io), 208 I/O (A20) (89) (io), 209 I/O (A6) (92) (io), 210 I/O (A7) (95) (io), 213 I/O (A8) (98) (io), 214 I/O (A9) (101) (io), 215 I/O (A19) (104) (io), 216 I/O (A18) (107) (io), 217 I/O (110) (io), 218 I/O (113) (io), 220 I/O (A10) (116) (io), 221 I/O (A11) (119) (io), 223 I/O (134) (io), 224 I/O (137) (io), 225 I/O (140) (io), 226 I/O (143) (io), 228 I/O (152) (io), 229 I/O (155) (io), 230 I/O (158) (io), 231 I/O (161) (io), 232 I/O (A12) (164) (io), 233 I/O (A13) (167) (io), 234 I/O (176) (io), 235 I/O (179) (io), 236 I/O (182) (io), 237 I/O (185) (io), 238 I/O (A14) (188) (io), 239 I/O, GCK8 (A15) (191) (io)
part B pins: 1 GND (power), 6 I/O, TDI (206) (io), 7 I/O, TCK (209) (io), 14 GND (power), 17 I/O, TMS (248) (io), 19 VCC (power), 22 GND (power), 29 GND (power), 30 VCC (power), 37 GND (power), 40 VCC (power), 45 GND (power), 58 O (M1) (386) (io), 59 GND (power), 60 I (M0) (389) (in), 61 VCC (power), 62 I (M2) (390) (in), 75 GND (power), 80 VCC (power), 83 GND (power), 90 VCC (power), 91 GND (power), 98 GND (power), 101 VCC (power), 106 GND (power), 119 GND (power), 120 DONE (io), 121 VCC (power), 122 ~{PROGRAM} (in), 135 GND (power), 140 VCC (power), 143 GND (power), 150 VCC (power), 151 GND (power), 158 GND (power), 161 VCC (power), 166 GND (power), 179 CCLK (io), 180 VCC (power), 181 O, TDO (0) (hiz), 182 GND (power), 196 GND (power), 201 VCC (power), 204 GND (power), 211 GND (power), 212 VCC (power), 219 GND (power), 222 VCC (power), 227 GND (power), 240 VCC (power)

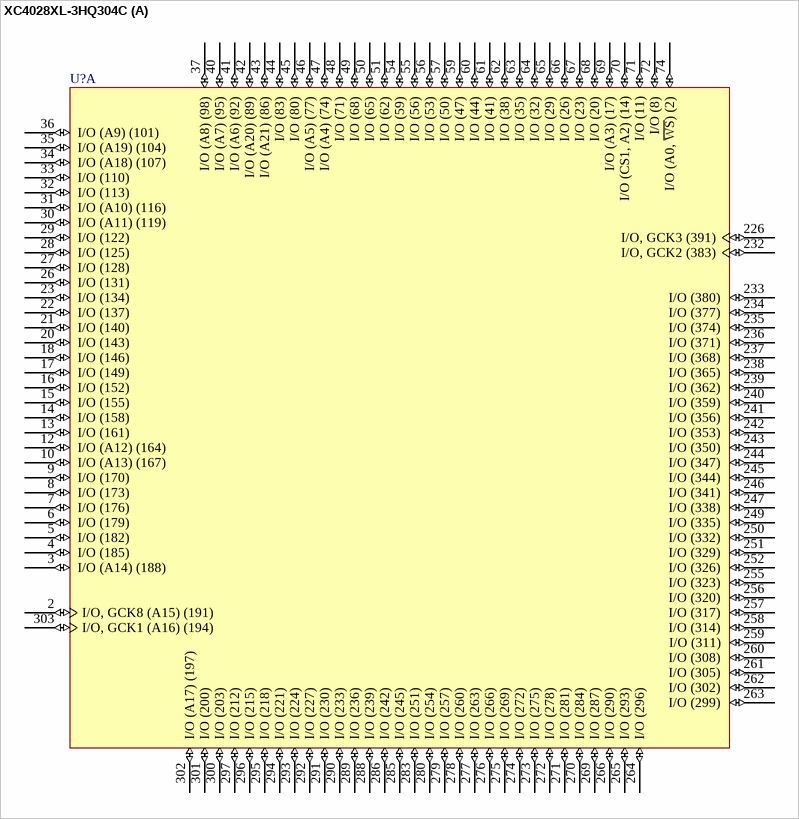
[diagram p222: symbol XC4028XL-3HQ304C]

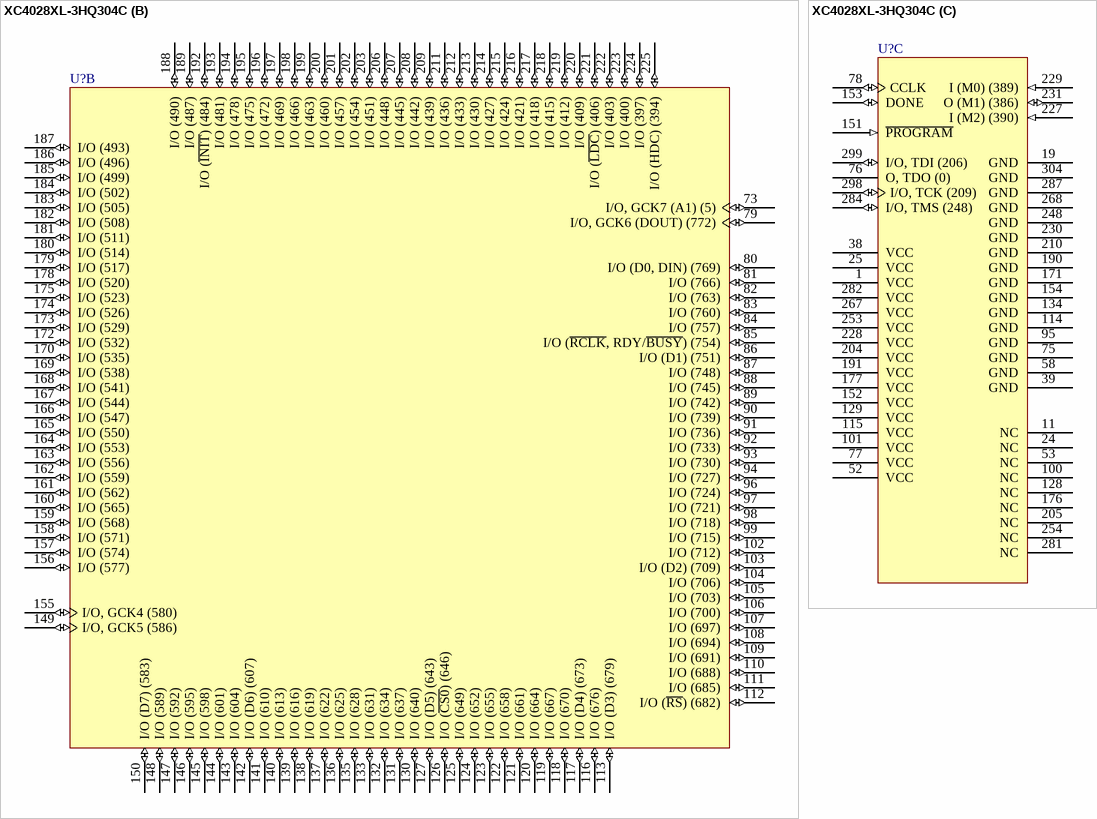
[diagram p223: symbol XC4028XL-3HQ304C]

## XC4028XL-3HQ304C
designator U?
XC4000XL FPGA, 304-Pin HQFP, Commercial Grade; PackageDocument: ver1.1, Oct-2002; Published: 28-Feb-2003; DatasheetDocument: (v1.6) May-99; PackageReference: HQ304; Publisher: Altium Limited; Code_JEDEC: MO-143-JA
footprint HQ304 (304-Pin Heat Sink Quad Flat Pack (HQ304))
part A pins: 2 I/O, GCK8 (A15) (191) (io), 3 I/O (A14) (188) (io), 4 I/O (185) (io), 5 I/O (182) (io), 6 I/O (179) (io), 7 I/O (176) (io), 8 I/O (173) (io), 9 I/O (170) (io), 10 I/O (A13) (167) (io), 12 I/O (A12) (164) (io), 13 I/O (161) (io), 14 I/O (158) (io), 15 I/O (155) (io), 16 I/O (152) (io), 17 I/O (149) (io), 18 I/O (146) (io), 20 I/O (143) (io), 21 I/O (140) (io), 22 I/O (137) (io), 23 I/O (134) (io), 26 I/O (131) (io), 27 I/O (128) (io), 28 I/O (125) (io), 29 I/O (122) (io), 30 I/O (A11) (119) (io), 31 I/O (A10) (116) (io), 32 I/O (113) (io), 33 I/O (110) (io), 34 I/O (A18) (107) (io), 35 I/O (A19) (104) (io), 36 I/O (A9) (101) (io), 37 I/O (A8) (98) (io), 40 I/O (A7) (95) (io), 41 I/O (A6) (92) (io), 42 I/O (A20) (89) (io), 43 I/O (A21) (86) (io), 44 I/O (83) (io), 45 I/O (80) (io), 46 I/O (A5) (77) (io), 47 I/O (A4) (74) (io), 48 I/O (71) (io), 49 I/O (68) (io), 50 I/O (65) (io), 51 I/O (62) (io), 54 I/O (59) (io), 55 I/O (56) (io), 56 I/O (53) (io), 57 I/O (50) (io), 59 I/O (47) (io), 60 I/O (44) (io), 61 I/O (41) (io), 62 I/O (38) (io), 63 I/O (35) (io), 64 I/O (32) (io), 65 I/O (29) (io), 66 I/O (26) (io), 67 I/O (23) (io), 68 I/O (20) (io), 69 I/O (A3) (17) (io), 70 I/O (CS1, A2) (14) (io), 71 I/O (11) (io), 72 I/O (8) (io), 74 I/O (A0, ~{WS}) (2) (io), 226 I/O, GCK3 (391) (io), 232 I/O, GCK2 (383) (io), 233 I/O (380) (io), 234 I/O (377) (io), 235 I/O (374) (io), 236 I/O (371) (io), 237 I/O (368) (io), 238 I/O (365) (io), 239 I/O (362) (io), 240 I/O (359) (io), 241 I/O (356) (io), 242 I/O (353) (io), 243 I/O (350) (io), 244 I/O (347) (io), 245 I/O (344) (io), 246 I/O (341) (io), 247 I/O (338) (io), 249 I/O (335) (io), 250 I/O (332) (io), 251 I/O (329) (io), 252 I/O (326) (io), 255 I/O (323) (io), 256 I/O (320) (io), 257 I/O (317) (io), 258 I/O (314) (io), 259 I/O (311) (io), 260 I/O (308) (io), 261 I/O (305) (io), 262 I/O (302) (io), 263 I/O (299) (io), 264 I/O (296) (io), 265 I/O (293) (io), 266 I/O (290) (io), 269 I/O (287) (io), 270 I/O (284) (io), 271 I/O (281) (io), 272 I/O (278) (io), 273 I/O (275) (io), 274 I/O (272) (io), 275 I/O (269) (io), 276 I/O (266) (io), 277 I/O (263) (io), 278 I/O (260) (io), 279 I/O (257) (io), 280 I/O (254) (io), 283 I/O (251) (io), 285 I/O (245) (io), 286 I/O (242) (io), 288 I/O (239) (io), 289 I/O (236) (io), 290 I/O (233) (io), 291 I/O (230) (io), 292 I/O (227) (io), 293 I/O (224) (io), 294 I/O (221) (io), 295 I/O (218) (io), 296 I/O (215) (io), 297 I/O (212) (io), 300 I/O (203) (io), 301 I/O (200) (io), 302 I/O (A17) (197) (io), 303 I/O, GCK1 (A16) (194) (io)
part B pins: 73 I/O, GCK7 (A1) (5) (io), 79 I/O, GCK6 (DOUT) (772) (io), 80 I/O (D0, DIN) (769) (io), 81 I/O (766) (io), 82 I/O (763) (io), 83 I/O (760) (io), 84 I/O (757) (io), 85 I/O (~{RCLK}, RDY/~{BUSY}) (754) (io), 86 I/O (D1) (751) (io), 87 I/O (748) (io), 88 I/O (745) (io), 89 I/O (742) (io), 90 I/O (739) (io), 91 I/O (736) (io), 92 I/O (733) (io), 93 I/O (730) (io), 94 I/O (727) (io), 96 I/O (724) (io), 97 I/O (721) (io), 98 I/O (718) (io), 99 I/O (715) (io), 102 I/O (712) (io), 103 I/O (D2) (709) (io), 104 I/O (706) (io), 105 I/O (703) (io), 106 I/O (700) (io), 107 I/O (697) (io), 108 I/O (694) (io), 109 I/O (691) (io), 110 I/O (688) (io), 111 I/O (685) (io), 112 I/O (~{RS}) (682) (io), 113 I/O (D3) (679) (io), 116 I/O (676) (io), 117 I/O (D4) (673) (io), 118 I/O (670) (io), 119 I/O (667) (io), 120 I/O (664) (io), 121 I/O (661) (io), 122 I/O (658) (io), 123 I/O (655) (io), 124 I/O (652) (io), 125 I/O (649) (io), 126 I/O (~{CS0}) (646) (io), 127 I/O (D5) (643) (io), 130 I/O (640) (io), 131 I/O (637) (io), 132 I/O (634) (io), 133 I/O (631) (io), 135 I/O (628) (io), 136 I/O (625) (io), 137 I/O (622) (io), 138 I/O (619) (io), 139 I/O (616) (io), 140 I/O (613) (io), 141 I/O (610) (io), 142 I/O (D6) (607) (io), 143 I/O (604) (io), 144 I/O (601) (io), 145 I/O (598) (io), 146 I/O (595) (io), 147 I/O (592) (io), 148 I/O (589) (io), 149 I/O, GCK5 (586) (io), 150 I/O (D7) (583) (io), 155 I/O, GCK4 (580) (io), 156 I/O (577) (io), 157 I/O (574) (io), 158 I/O (571) (io), 159 I/O (568) (io), 160 I/O (565) (io), 161 I/O (562) (io), 162 I/O (559) (io), 163 I/O (556) (io), 164 I/O (553) (io), 165 I/O (550) (io), 166 I/O (547) (io), 167 I/O (544) (io), 168 I/O (541) (io), 169 I/O (538) (io), 170 I/O (535) (io), 172 I/O (532) (io), 173 I/O (529) (io), 174 I/O (526) (io), 175 I/O (523) (io), 178 I/O (520) (io), 179 I/O (517) (io), 180 I/O (514) (io), 181 I/O (511) (io), 182 I/O (508) (io), 183 I/O (505) (io), 184 I/O (502) (io), 185 I/O (499) (io), 186 I/O (496) (io), 187 I/O (493) (io), 188 I/O (490) (io), 189 I/O (487) (io), 192 I/O (~{INIT}) (484) (io), 193 I/O (481) (io), 194 I/O (478) (io), 195 I/O (475) (io), 196 I/O (472) (io), 197 I/O (469) (io), 198 I/O (466) (io), 199 I/O (463) (io), 200 I/O (460) (io), 201 I/O (457) (io), 202 I/O (454) (io), 203 I/O (451) (io), 206 I/O (448) (io), 207 I/O (445) (io), 208 I/O (442) (io), 209 I/O (439) (io), 211 I/O (436) (io), 212 I/O (433) (io), 213 I/O (430) (io), 214 I/O (427) (io), 215 I/O (424) (io), 216 I/O (421) (io), 217 I/O (418) (io), 218 I/O (415) (io), 219 I/O (412) (io), 220 I/O (409) (io), 221 I/O (~{LDC}) (406) (io), 222 I/O (403) (io), 223 I/O (400) (io), 224 I/O (397) (io), 225 I/O (HDC) (394) (io)
part C pins: 1 VCC (power), 11 NC, 19 GND (power), 24 NC, 25 VCC (power), 38 VCC (power), 39 GND (power), 52 VCC (power), 53 NC, 58 GND (power), 75 GND (power), 76 O, TDO (0) (hiz), 77 VCC (power), 78 CCLK (io), 95 GND (power), 100 NC, 101 VCC (power), 114 GND (power), 115 VCC (power), 128 NC, 129 VCC (power), 134 GND (power), 151 ~{PROGRAM} (in), 152 VCC (power), 153 DONE (io), 154 GND (power), 171 GND (power), 176 NC, 177 VCC (power), 190 GND (power), 191 VCC (power), 204 VCC (power), 205 NC, 210 GND (power), 227 I (M2) (390) (in), 228 VCC (power), 229 I (M0) (389) (in), 230 GND (power), 231 O (M1) (386) (io), 248 GND (power), 253 VCC (power), 254 NC, 267 VCC (power), 268 GND (power), 281 NC, 282 VCC (power), 284 I/O, TMS (248) (io), 287 GND (power), 298 I/O, TCK (209) (io), 299 I/O, TDI (206) (io), 304 GND (power)

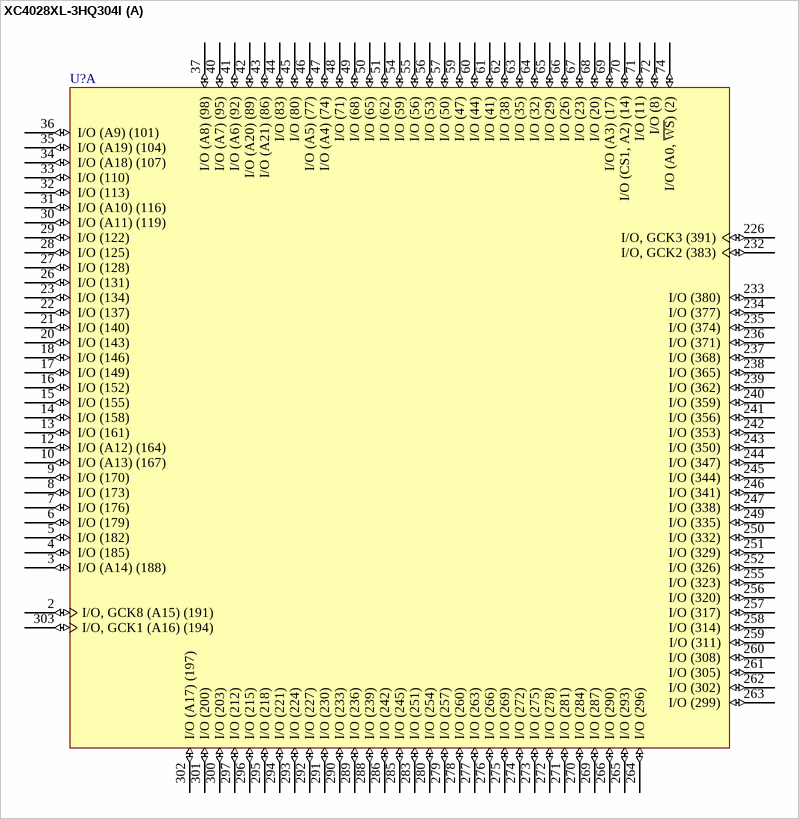
[diagram p224: symbol XC4028XL-3HQ304I]

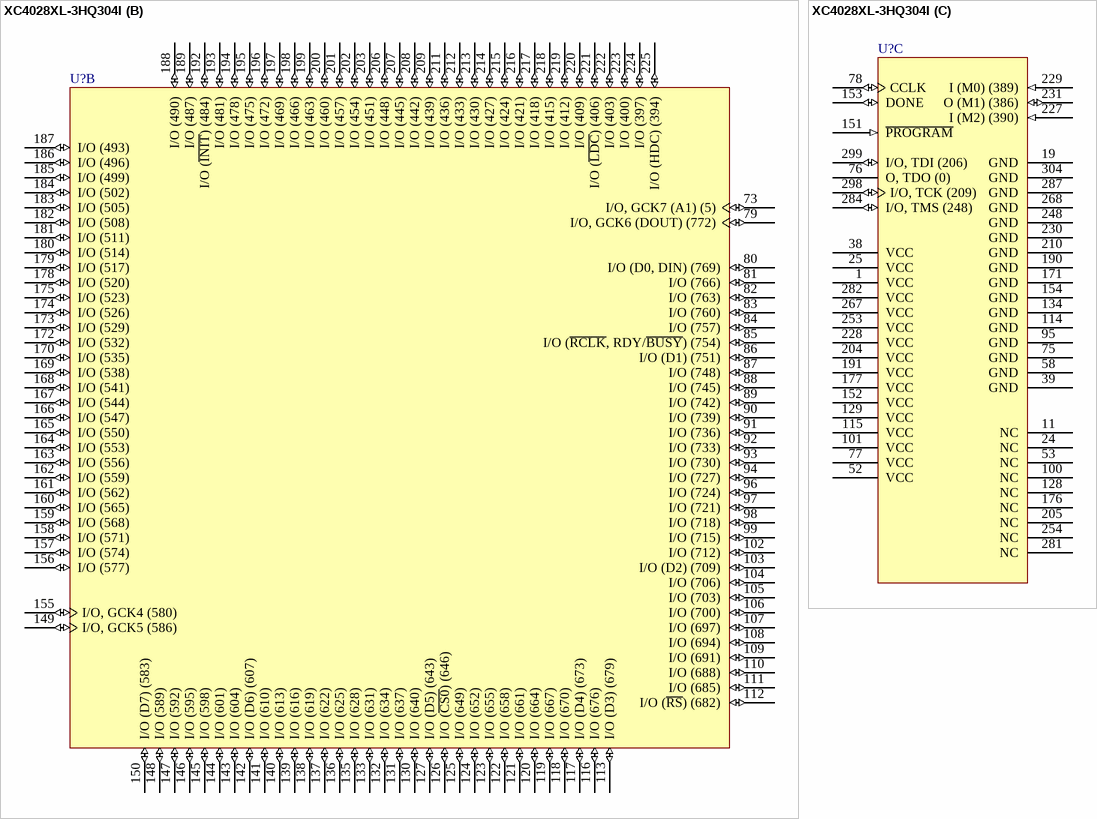
[diagram p225: symbol XC4028XL-3HQ304I]

## XC4028XL-3HQ304I
designator U?
XC4000XL FPGA, 304-Pin HQFP, Industrial Grade; PackageDocument: ver1.1, Oct-2002; Published: 28-Feb-2003; DatasheetDocument: (v1.6) May-99; PackageReference: HQ304; Publisher: Altium Limited; Code_JEDEC: MO-143-JA
footprint HQ304 (304-Pin Heat Sink Quad Flat Pack (HQ304))
part A pins: 2 I/O, GCK8 (A15) (191) (io), 3 I/O (A14) (188) (io), 4 I/O (185) (io), 5 I/O (182) (io), 6 I/O (179) (io), 7 I/O (176) (io), 8 I/O (173) (io), 9 I/O (170) (io), 10 I/O (A13) (167) (io), 12 I/O (A12) (164) (io), 13 I/O (161) (io), 14 I/O (158) (io), 15 I/O (155) (io), 16 I/O (152) (io), 17 I/O (149) (io), 18 I/O (146) (io), 20 I/O (143) (io), 21 I/O (140) (io), 22 I/O (137) (io), 23 I/O (134) (io), 26 I/O (131) (io), 27 I/O (128) (io), 28 I/O (125) (io), 29 I/O (122) (io), 30 I/O (A11) (119) (io), 31 I/O (A10) (116) (io), 32 I/O (113) (io), 33 I/O (110) (io), 34 I/O (A18) (107) (io), 35 I/O (A19) (104) (io), 36 I/O (A9) (101) (io), 37 I/O (A8) (98) (io), 40 I/O (A7) (95) (io), 41 I/O (A6) (92) (io), 42 I/O (A20) (89) (io), 43 I/O (A21) (86) (io), 44 I/O (83) (io), 45 I/O (80) (io), 46 I/O (A5) (77) (io), 47 I/O (A4) (74) (io), 48 I/O (71) (io), 49 I/O (68) (io), 50 I/O (65) (io), 51 I/O (62) (io), 54 I/O (59) (io), 55 I/O (56) (io), 56 I/O (53) (io), 57 I/O (50) (io), 59 I/O (47) (io), 60 I/O (44) (io), 61 I/O (41) (io), 62 I/O (38) (io), 63 I/O (35) (io), 64 I/O (32) (io), 65 I/O (29) (io), 66 I/O (26) (io), 67 I/O (23) (io), 68 I/O (20) (io), 69 I/O (A3) (17) (io), 70 I/O (CS1, A2) (14) (io), 71 I/O (11) (io), 72 I/O (8) (io), 74 I/O (A0, ~{WS}) (2) (io), 226 I/O, GCK3 (391) (io), 232 I/O, GCK2 (383) (io), 233 I/O (380) (io), 234 I/O (377) (io), 235 I/O (374) (io), 236 I/O (371) (io), 237 I/O (368) (io), 238 I/O (365) (io), 239 I/O (362) (io), 240 I/O (359) (io), 241 I/O (356) (io), 242 I/O (353) (io), 243 I/O (350) (io), 244 I/O (347) (io), 245 I/O (344) (io), 246 I/O (341) (io), 247 I/O (338) (io), 249 I/O (335) (io), 250 I/O (332) (io), 251 I/O (329) (io), 252 I/O (326) (io), 255 I/O (323) (io), 256 I/O (320) (io), 257 I/O (317) (io), 258 I/O (314) (io), 259 I/O (311) (io), 260 I/O (308) (io), 261 I/O (305) (io), 262 I/O (302) (io), 263 I/O (299) (io), 264 I/O (296) (io), 265 I/O (293) (io), 266 I/O (290) (io), 269 I/O (287) (io), 270 I/O (284) (io), 271 I/O (281) (io), 272 I/O (278) (io), 273 I/O (275) (io), 274 I/O (272) (io), 275 I/O (269) (io), 276 I/O (266) (io), 277 I/O (263) (io), 278 I/O (260) (io), 279 I/O (257) (io), 280 I/O (254) (io), 283 I/O (251) (io), 285 I/O (245) (io), 286 I/O (242) (io), 288 I/O (239) (io), 289 I/O (236) (io), 290 I/O (233) (io), 291 I/O (230) (io), 292 I/O (227) (io), 293 I/O (224) (io), 294 I/O (221) (io), 295 I/O (218) (io), 296 I/O (215) (io), 297 I/O (212) (io), 300 I/O (203) (io), 301 I/O (200) (io), 302 I/O (A17) (197) (io), 303 I/O, GCK1 (A16) (194) (io)
part B pins: 73 I/O, GCK7 (A1) (5) (io), 79 I/O, GCK6 (DOUT) (772) (io), 80 I/O (D0, DIN) (769) (io), 81 I/O (766) (io), 82 I/O (763) (io), 83 I/O (760) (io), 84 I/O (757) (io), 85 I/O (~{RCLK}, RDY/~{BUSY}) (754) (io), 86 I/O (D1) (751) (io), 87 I/O (748) (io), 88 I/O (745) (io), 89 I/O (742) (io), 90 I/O (739) (io), 91 I/O (736) (io), 92 I/O (733) (io), 93 I/O (730) (io), 94 I/O (727) (io), 96 I/O (724) (io), 97 I/O (721) (io), 98 I/O (718) (io), 99 I/O (715) (io), 102 I/O (712) (io), 103 I/O (D2) (709) (io), 104 I/O (706) (io), 105 I/O (703) (io), 106 I/O (700) (io), 107 I/O (697) (io), 108 I/O (694) (io), 109 I/O (691) (io), 110 I/O (688) (io), 111 I/O (685) (io), 112 I/O (~{RS}) (682) (io), 113 I/O (D3) (679) (io), 116 I/O (676) (io), 117 I/O (D4) (673) (io), 118 I/O (670) (io), 119 I/O (667) (io), 120 I/O (664) (io), 121 I/O (661) (io), 122 I/O (658) (io), 123 I/O (655) (io), 124 I/O (652) (io), 125 I/O (649) (io), 126 I/O (~{CS0}) (646) (io), 127 I/O (D5) (643) (io), 130 I/O (640) (io), 131 I/O (637) (io), 132 I/O (634) (io), 133 I/O (631) (io), 135 I/O (628) (io), 136 I/O (625) (io), 137 I/O (622) (io), 138 I/O (619) (io), 139 I/O (616) (io), 140 I/O (613) (io), 141 I/O (610) (io), 142 I/O (D6) (607) (io), 143 I/O (604) (io), 144 I/O (601) (io), 145 I/O (598) (io), 146 I/O (595) (io), 147 I/O (592) (io), 148 I/O (589) (io), 149 I/O, GCK5 (586) (io), 150 I/O (D7) (583) (io), 155 I/O, GCK4 (580) (io), 156 I/O (577) (io), 157 I/O (574) (io), 158 I/O (571) (io), 159 I/O (568) (io), 160 I/O (565) (io), 161 I/O (562) (io), 162 I/O (559) (io), 163 I/O (556) (io), 164 I/O (553) (io), 165 I/O (550) (io), 166 I/O (547) (io), 167 I/O (544) (io), 168 I/O (541) (io), 169 I/O (538) (io), 170 I/O (535) (io), 172 I/O (532) (io), 173 I/O (529) (io), 174 I/O (526) (io), 175 I/O (523) (io), 178 I/O (520) (io), 179 I/O (517) (io), 180 I/O (514) (io), 181 I/O (511) (io), 182 I/O (508) (io), 183 I/O (505) (io), 184 I/O (502) (io), 185 I/O (499) (io), 186 I/O (496) (io), 187 I/O (493) (io), 188 I/O (490) (io), 189 I/O (487) (io), 192 I/O (~{INIT}) (484) (io), 193 I/O (481) (io), 194 I/O (478) (io), 195 I/O (475) (io), 196 I/O (472) (io), 197 I/O (469) (io), 198 I/O (466) (io), 199 I/O (463) (io), 200 I/O (460) (io), 201 I/O (457) (io), 202 I/O (454) (io), 203 I/O (451) (io), 206 I/O (448) (io), 207 I/O (445) (io), 208 I/O (442) (io), 209 I/O (439) (io), 211 I/O (436) (io), 212 I/O (433) (io), 213 I/O (430) (io), 214 I/O (427) (io), 215 I/O (424) (io), 216 I/O (421) (io), 217 I/O (418) (io), 218 I/O (415) (io), 219 I/O (412) (io), 220 I/O (409) (io), 221 I/O (~{LDC}) (406) (io), 222 I/O (403) (io), 223 I/O (400) (io), 224 I/O (397) (io), 225 I/O (HDC) (394) (io)
part C pins: 1 VCC (power), 11 NC, 19 GND (power), 24 NC, 25 VCC (power), 38 VCC (power), 39 GND (power), 52 VCC (power), 53 NC, 58 GND (power), 75 GND (power), 76 O, TDO (0) (hiz), 77 VCC (power), 78 CCLK (io), 95 GND (power), 100 NC, 101 VCC (power), 114 GND (power), 115 VCC (power), 128 NC, 129 VCC (power), 134 GND (power), 151 ~{PROGRAM} (in), 152 VCC (power), 153 DONE (io), 154 GND (power), 171 GND (power), 176 NC, 177 VCC (power), 190 GND (power), 191 VCC (power), 204 VCC (power), 205 NC, 210 GND (power), 227 I (M2) (390) (in), 228 VCC (power), 229 I (M0) (389) (in), 230 GND (power), 231 O (M1) (386) (io), 248 GND (power), 253 VCC (power), 254 NC, 267 VCC (power), 268 GND (power), 281 NC, 282 VCC (power), 284 I/O, TMS (248) (io), 287 GND (power), 298 I/O, TCK (209) (io), 299 I/O, TDI (206) (io), 304 GND (power)

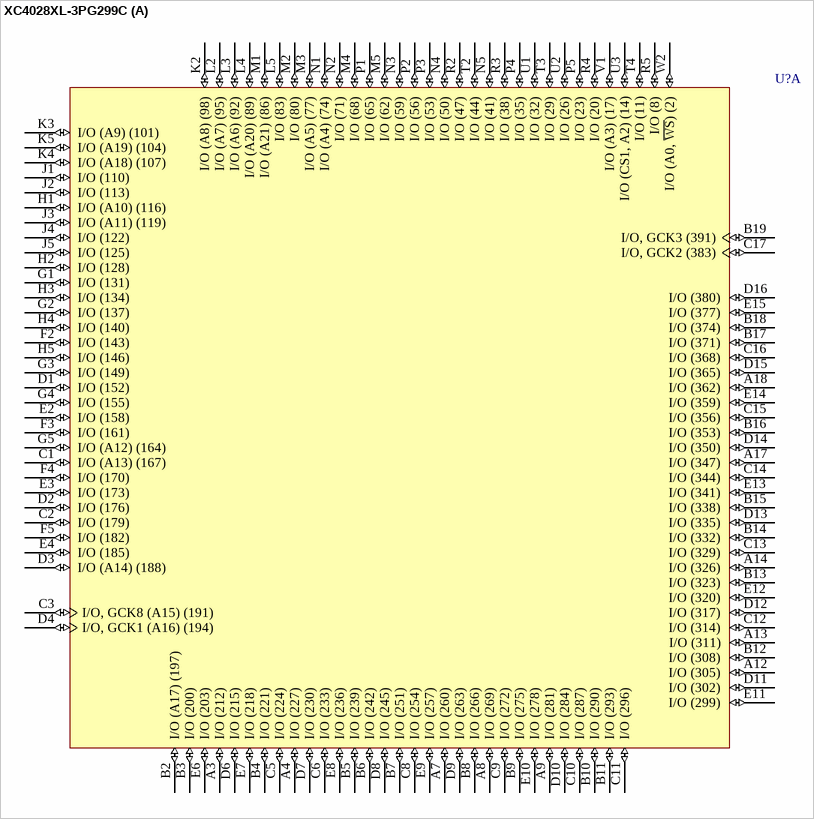
[diagram p226: symbol XC4028XL-3PG299C]

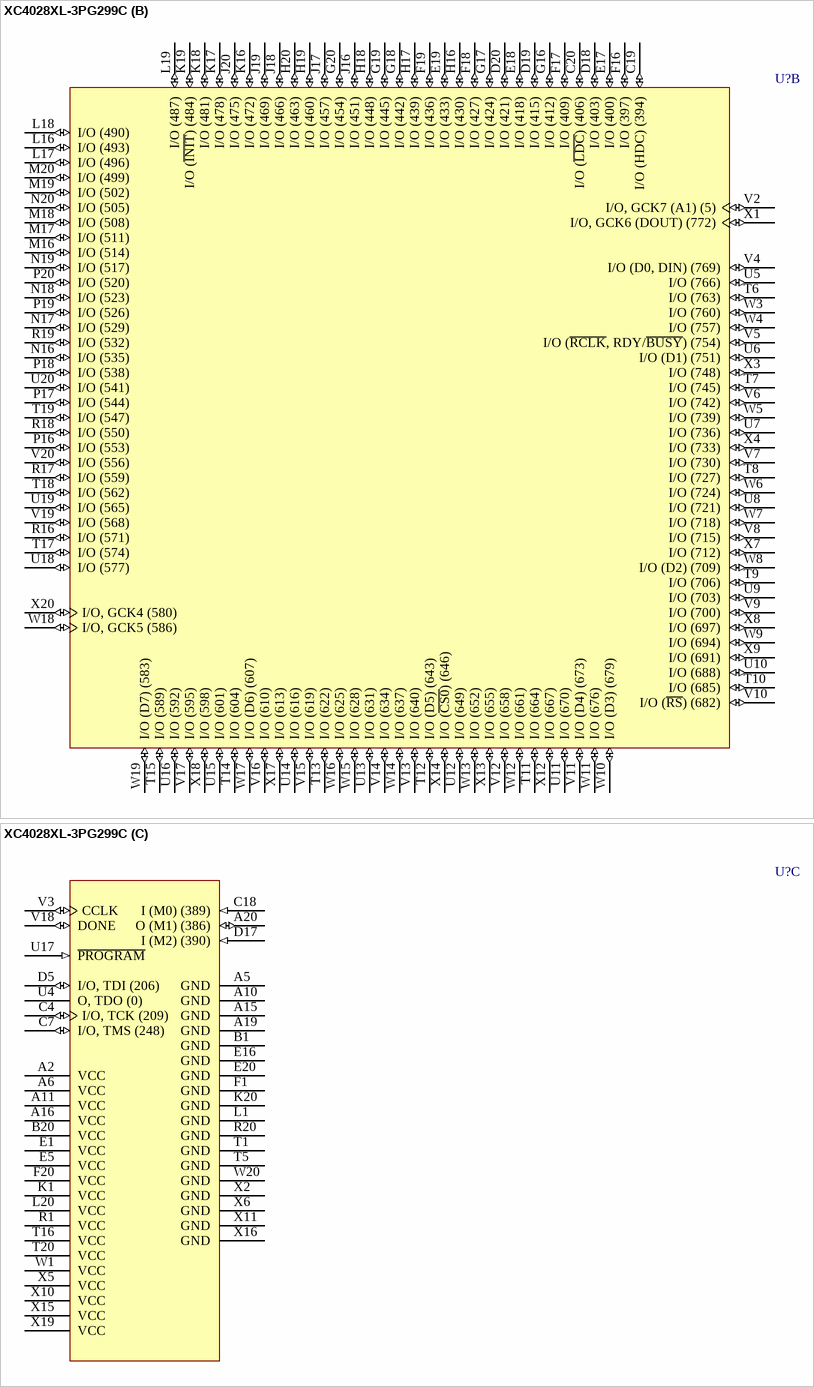
[diagram p227: symbol XC4028XL-3PG299C]